# Altium integrated library Atmel Microcontroller AVR UC3.IntLib: 227 symbols (part 25 of 32)
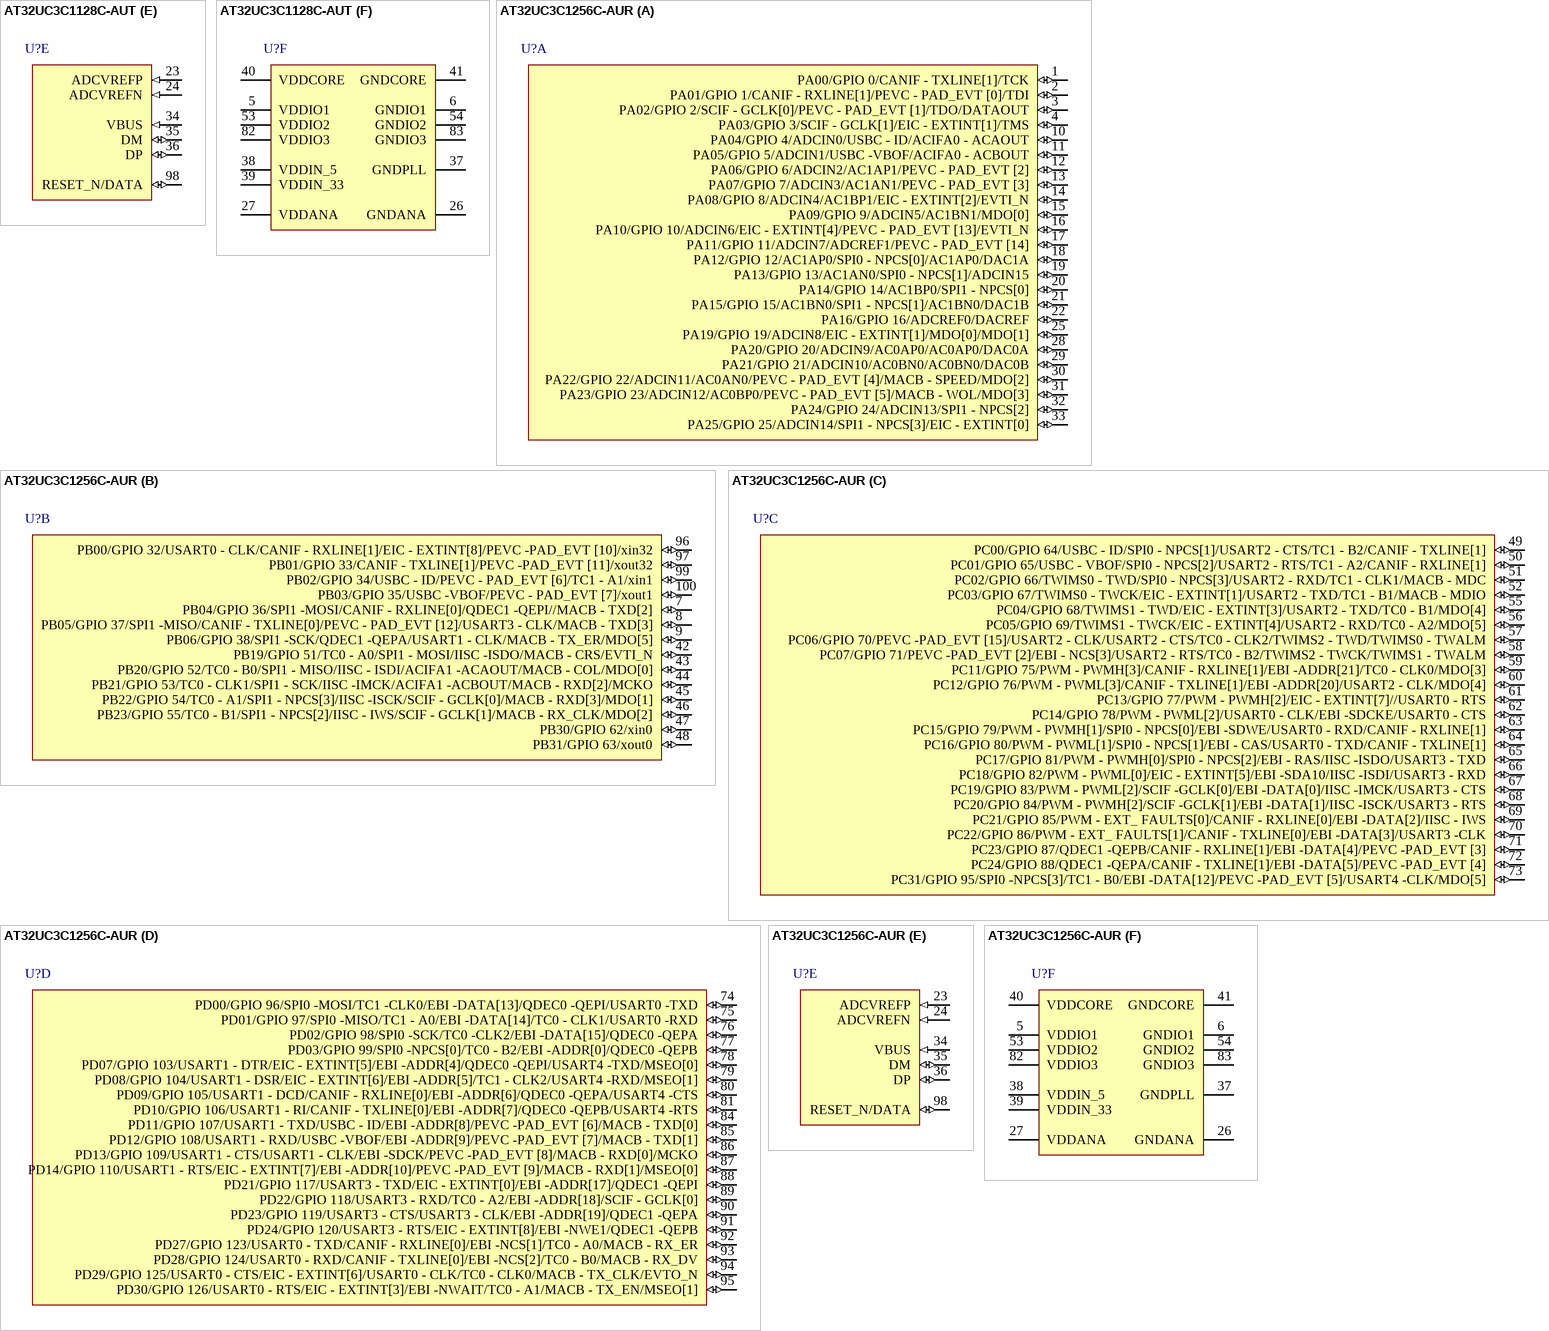
[diagram p156: symbols AT32UC3C1128C-AUT to AT32UC3C1256C-AUR]

## AT32UC3C1256C-AUR
designator U?
32-bit AVR UC3 C Series Microcontroller, 256KB Flash, 68KB SRAM, 81 GPIO pins, Industrial Grade, 100- Pin TQFP, Reel; DatasheetVersion: revC, Aug-2011; PackageVersion: 2011; PackageReference: TQFP100; PackageDescription: 100-Pin Thin Plastic Quad Flat Pack, 14 x 14 x 1 mm Body, 0.5 mm Pitch; Code_JEDEC: MS-026-AED; ComponentLink1Description: Manufacturer URL; ComponentLink1URL: http://www.atmel.com/; ComponentLink2Description: AT32UC3C Datasheet; ComponentLink2URL: http://www.atmel.com/dyn/resources/prod_documents/doc32117.pdf; ComponentLink3Description: AT32UC3C Summary; ComponentLink3URL: http://www.atmel.com/dyn/resources/prod_documents/32117s.pdf
footprint TQFP100_N (Thin QFP, 100-Leads, Body 14x14mm, Pitch 0.5mm, IPC Medium Density)
footprint TQFP100_L (Thin QFP, 100-Leads, Body 14x14mm, Pitch 0.5mm, IPC High Density)
footprint TQFP100_M (Thin QFP, 100-Leads, Body 14x14mm, Pitch 0.5mm, IPC Low Density)
part A pins: 1 PA00/GPIO 0/CANIF - TXLINE[1]/TCK (io), 2 PA01/GPIO 1/CANIF - RXLINE[1]/PEVC - PAD_EVT [0]/TDI (io), 3 PA02/GPIO 2/SCIF - GCLK[0]/PEVC - PAD_EVT [1]/TDO/DATAOUT (io), 4 PA03/GPIO 3/SCIF - GCLK[1]/EIC - EXTINT[1]/TMS (io), 10 PA04/GPIO 4/ADCIN0/USBC - ID/ACIFA0 - ACAOUT (io), 11 PA05/GPIO 5/ADCIN1/USBC -VBOF/ACIFA0 - ACBOUT (io), 12 PA06/GPIO 6/ADCIN2/AC1AP1/PEVC - PAD_EVT [2] (io), 13 PA07/GPIO 7/ADCIN3/AC1AN1/PEVC - PAD_EVT [3] (io), 14 PA08/GPIO 8/ADCIN4/AC1BP1/EIC - EXTINT[2]/EVTI_N (io), 15 PA09/GPIO 9/ADCIN5/AC1BN1/MDO[0] (io), 16 PA10/GPIO 10/ADCIN6/EIC - EXTINT[4]/PEVC - PAD_EVT [13]/EVTI_N (io), 17 PA11/GPIO 11/ADCIN7/ADCREF1/PEVC - PAD_EVT [14] (io), 18 PA12/GPIO 12/AC1AP0/SPI0 - NPCS[0]/AC1AP0/DAC1A (io), 19 PA13/GPIO 13/AC1AN0/SPI0 - NPCS[1]/ADCIN15 (io), 20 PA14/GPIO 14/AC1BP0/SPI1 - NPCS[0] (io), 21 PA15/GPIO 15/AC1BN0/SPI1 - NPCS[1]/AC1BN0/DAC1B (io), 22 PA16/GPIO 16/ADCREF0/DACREF (io), 25 PA19/GPIO 19/ADCIN8/EIC - EXTINT[1]/MDO[0]/MDO[1] (io), 28 PA20/GPIO 20/ADCIN9/AC0AP0/AC0AP0/DAC0A (io), 29 PA21/GPIO 21/ADCIN10/AC0BN0/AC0BN0/DAC0B (io), 30 PA22/GPIO 22/ADCIN11/AC0AN0/PEVC - PAD_EVT [4]/MACB - SPEED/MDO[2] (io), 31 PA23/GPIO 23/ADCIN12/AC0BP0/PEVC - PAD_EVT [5]/MACB - WOL/MDO[3] (io), 32 PA24/GPIO 24/ADCIN13/SPI1 - NPCS[2] (io), 33 PA25/GPIO 25/ADCIN14/SPI1 - NPCS[3]/EIC - EXTINT[0] (io)
part B pins: 7 PB04/GPIO 36/SPI1 -MOSI/CANIF - RXLINE[0]/QDEC1 -QEPI//MACB - TXD[2] (io), 8 PB05/GPIO 37/SPI1 -MISO/CANIF - TXLINE[0]/PEVC - PAD_EVT [12]/USART3 - CLK/MACB - TXD[3] (io), 9 PB06/GPIO 38/SPI1 -SCK/QDEC1 -QEPA/USART1 - CLK/MACB - TX_ER/MDO[5] (io), 42 PB19/GPIO 51/TC0 - A0/SPI1 - MOSI/IISC -ISDO/MACB - CRS/EVTI_N (io), 43 PB20/GPIO 52/TC0 - B0/SPI1 - MISO/IISC - ISDI/ACIFA1 -ACAOUT/MACB - COL/MDO[0] (io), 44 PB21/GPIO 53/TC0 - CLK1/SPI1 - SCK/IISC -IMCK/ACIFA1 -ACBOUT/MACB - RXD[2]/MCKO (io), 45 PB22/GPIO 54/TC0 - A1/SPI1 - NPCS[3]/IISC -ISCK/SCIF - GCLK[0]/MACB - RXD[3]/MDO[1] (io), 46 PB23/GPIO 55/TC0 - B1/SPI1 - NPCS[2]/IISC - IWS/SCIF - GCLK[1]/MACB - RX_CLK/MDO[2] (io), 47 PB30/GPIO 62/xin0 (io), 48 PB31/GPIO 63/xout0 (io), 96 PB00/GPIO 32/USART0 - CLK/CANIF - RXLINE[1]/EIC - EXTINT[8]/PEVC -PAD_EVT [10]/xin32 (io), 97 PB01/GPIO 33/CANIF - TXLINE[1]/PEVC -PAD_EVT [11]/xout32 (io), 99 PB02/GPIO 34/USBC - ID/PEVC - PAD_EVT [6]/TC1 - A1/xin1 (io), 100 PB03/GPIO 35/USBC -VBOF/PEVC - PAD_EVT [7]/xout1 (io)
part C pins: 49 PC00/GPIO 64/USBC - ID/SPI0 - NPCS[1]/USART2 - CTS/TC1 - B2/CANIF - TXLINE[1] (io), 50 PC01/GPIO 65/USBC - VBOF/SPI0 - NPCS[2]/USART2 - RTS/TC1 - A2/CANIF - RXLINE[1] (io), 51 PC02/GPIO 66/TWIMS0 - TWD/SPI0 - NPCS[3]/USART2 - RXD/TC1 - CLK1/MACB - MDC (io), 52 PC03/GPIO 67/TWIMS0 - TWCK/EIC - EXTINT[1]/USART2 - TXD/TC1 - B1/MACB - MDIO (io), 55 PC04/GPIO 68/TWIMS1 - TWD/EIC - EXTINT[3]/USART2 - TXD/TC0 - B1/MDO[4] (io), 56 PC05/GPIO 69/TWIMS1 - TWCK/EIC - EXTINT[4]/USART2 - RXD/TC0 - A2/MDO[5] (io), 57 PC06/GPIO 70/PEVC -PAD_EVT [15]/USART2 - CLK/USART2 - CTS/TC0 - CLK2/TWIMS2 - TWD/TWIMS0 - TWALM (io), 58 PC07/GPIO 71/PEVC -PAD_EVT [2]/EBI - NCS[3]/USART2 - RTS/TC0 - B2/TWIMS2 - TWCK/TWIMS1 - TWALM (io), 59 PC11/GPIO 75/PWM - PWMH[3]/CANIF - RXLINE[1]/EBI -ADDR[21]/TC0 - CLK0/MDO[3] (io), 60 PC12/GPIO 76/PWM - PWML[3]/CANIF - TXLINE[1]/EBI -ADDR[20]/USART2 - CLK/MDO[4] (io), 61 PC13/GPIO 77/PWM - PWMH[2]/EIC - EXTINT[7]//USART0 - RTS (io), 62 PC14/GPIO 78/PWM - PWML[2]/USART0 - CLK/EBI -SDCKE/USART0 - CTS (io), 63 PC15/GPIO 79/PWM - PWMH[1]/SPI0 - NPCS[0]/EBI -SDWE/USART0 - RXD/CANIF - RXLINE[1] (io), 64 PC16/GPIO 80/PWM - PWML[1]/SPI0 - NPCS[1]/EBI - CAS/USART0 - TXD/CANIF - TXLINE[1] (io), 65 PC17/GPIO 81/PWM - PWMH[0]/SPI0 - NPCS[2]/EBI - RAS/IISC -ISDO/USART3 - TXD (io), 66 PC18/GPIO 82/PWM - PWML[0]/EIC - EXTINT[5]/EBI -SDA10/IISC -ISDI/USART3 - RXD (io), 67 PC19/GPIO 83/PWM - PWML[2]/SCIF -GCLK[0]/EBI -DATA[0]/IISC -IMCK/USART3 - CTS (io), 68 PC20/GPIO 84/PWM - PWMH[2]/SCIF -GCLK[1]/EBI -DATA[1]/IISC -ISCK/USART3 - RTS (io), 69 PC21/GPIO 85/PWM - EXT_ FAULTS[0]/CANIF - RXLINE[0]/EBI -DATA[2]/IISC - IWS (io), 70 PC22/GPIO 86/PWM - EXT_ FAULTS[1]/CANIF - TXLINE[0]/EBI -DATA[3]/USART3 -CLK (io), 71 PC23/GPIO 87/QDEC1 -QEPB/CANIF - RXLINE[1]/EBI -DATA[4]/PEVC -PAD_EVT [3] (io), 72 PC24/GPIO 88/QDEC1 -QEPA/CANIF - TXLINE[1]/EBI -DATA[5]/PEVC -PAD_EVT [4] (io), 73 PC31/GPIO 95/SPI0 -NPCS[3]/TC1 - B0/EBI -DATA[12]/PEVC -PAD_EVT [5]/USART4 -CLK/MDO[5] (io)
part D pins: 74 PD00/GPIO 96/SPI0 -MOSI/TC1 -CLK0/EBI -DATA[13]/QDEC0 -QEPI/USART0 -TXD (io), 75 PD01/GPIO 97/SPI0 -MISO/TC1 - A0/EBI -DATA[14]/TC0 - CLK1/USART0 -RXD (io), 76 PD02/GPIO 98/SPI0 -SCK/TC0 -CLK2/EBI -DATA[15]/QDEC0 -QEPA (io), 77 PD03/GPIO 99/SPI0 -NPCS[0]/TC0 - B2/EBI -ADDR[0]/QDEC0 -QEPB (io), 78 PD07/GPIO 103/USART1 - DTR/EIC - EXTINT[5]/EBI -ADDR[4]/QDEC0 -QEPI/USART4 -TXD/MSEO[0] (io), 79 PD08/GPIO 104/USART1 - DSR/EIC - EXTINT[6]/EBI -ADDR[5]/TC1 - CLK2/USART4 -RXD/MSEO[1] (io), 80 PD09/GPIO 105/USART1 - DCD/CANIF - RXLINE[0]/EBI -ADDR[6]/QDEC0 -QEPA/USART4 -CTS (io), 81 PD10/GPIO 106/USART1 - RI/CANIF - TXLINE[0]/EBI -ADDR[7]/QDEC0 -QEPB/USART4 -RTS (io), 84 PD11/GPIO 107/USART1 - TXD/USBC - ID/EBI -ADDR[8]/PEVC -PAD_EVT [6]/MACB - TXD[0] (io), 85 PD12/GPIO 108/USART1 - RXD/USBC -VBOF/EBI -ADDR[9]/PEVC -PAD_EVT [7]/MACB - TXD[1] (io), 86 PD13/GPIO 109/USART1 - CTS/USART1 - CLK/EBI -SDCK/PEVC -PAD_EVT [8]/MACB - RXD[0]/MCKO (io), 87 PD14/GPIO 110/USART1 - RTS/EIC - EXTINT[7]/EBI -ADDR[10]/PEVC -PAD_EVT [9]/MACB - RXD[1]/MSEO[0] (io), 88 PD21/GPIO 117/USART3 - TXD/EIC - EXTINT[0]/EBI -ADDR[17]/QDEC1 -QEPI (io), 89 PD22/GPIO 118/USART3 - RXD/TC0 - A2/EBI -ADDR[18]/SCIF - GCLK[0] (io), 90 PD23/GPIO 119/USART3 - CTS/USART3 - CLK/EBI -ADDR[19]/QDEC1 -QEPA (io), 91 PD24/GPIO 120/USART3 - RTS/EIC - EXTINT[8]/EBI -NWE1/QDEC1 -QEPB (io), 92 PD27/GPIO 123/USART0 - TXD/CANIF - RXLINE[0]/EBI -NCS[1]/TC0 - A0/MACB - RX_ER (io), 93 PD28/GPIO 124/USART0 - RXD/CANIF - TXLINE[0]/EBI -NCS[2]/TC0 - B0/MACB - RX_DV (io), 94 PD29/GPIO 125/USART0 - CTS/EIC - EXTINT[6]/USART0 - CLK/TC0 - CLK0/MACB - TX_CLK/EVTO_N (io), 95 PD30/GPIO 126/USART0 - RTS/EIC - EXTINT[3]/EBI -NWAIT/TC0 - A1/MACB - TX_EN/MSEO[1] (io)
part E pins: 23 ADCVREFP (in), 24 ADCVREFN (in), 34 VBUS (in), 35 DM (io), 36 DP (io), 98 RESET_N/DATA (io)
part F pins: 5 VDDIO1 (power), 6 GNDIO1 (power), 26 GNDANA (power), 27 VDDANA (power), 37 GNDPLL (power), 38 VDDIN_5 (power), 39 VDDIN_33 (power), 40 VDDCORE (power), 41 GNDCORE (power), 53 VDDIO2 (power), 54 GNDIO2 (power), 82 VDDIO3 (power), 83 GNDIO3 (power)

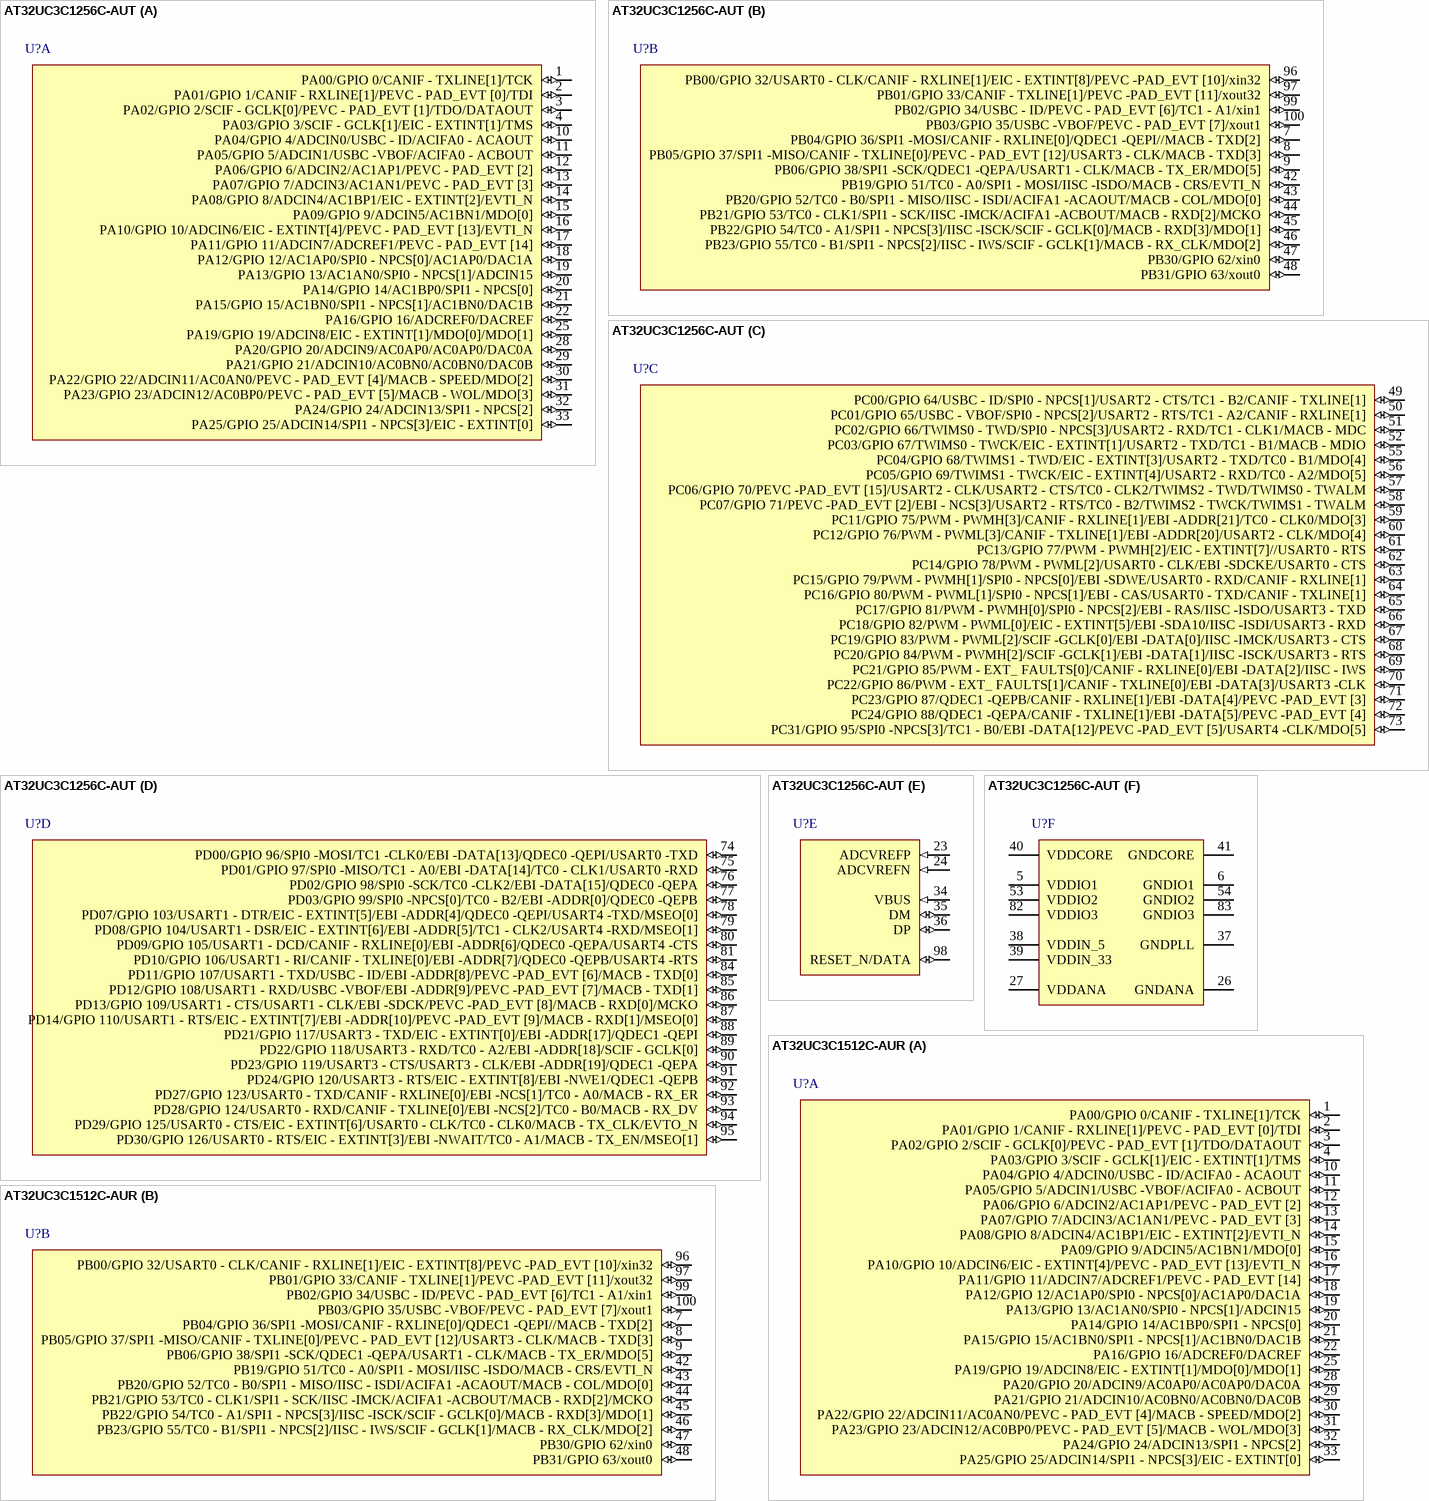
[diagram p85: symbols AT32UC3C1256C-AUT to AT32UC3C1512C-AUR]

## AT32UC3C1256C-AUT
designator U?
32-bit AVR UC3 C Series Microcontroller, 256KB Flash, 68KB SRAM, 81 GPIO pins, Industrial Grade, 100- Pin TQFP, Tray; DatasheetVersion: revC, Aug-2011; PackageVersion: 2011; PackageReference: TQFP100; PackageDescription: 100-Pin Thin Plastic Quad Flat Pack, 14 x 14 x 1 mm Body, 0.5 mm Pitch; Code_JEDEC: MS-026-AED; ComponentLink1Description: Manufacturer URL; ComponentLink1URL: http://www.atmel.com/; ComponentLink2Description: AT32UC3C Datasheet; ComponentLink2URL: http://www.atmel.com/dyn/resources/prod_documents/doc32117.pdf; ComponentLink3Description: AT32UC3C Summary; ComponentLink3URL: http://www.atmel.com/dyn/resources/prod_documents/32117s.pdf
footprint TQFP100_N (Thin QFP, 100-Leads, Body 14x14mm, Pitch 0.5mm, IPC Medium Density)
footprint TQFP100_L (Thin QFP, 100-Leads, Body 14x14mm, Pitch 0.5mm, IPC High Density)
footprint TQFP100_M (Thin QFP, 100-Leads, Body 14x14mm, Pitch 0.5mm, IPC Low Density)
part A pins: 1 PA00/GPIO 0/CANIF - TXLINE[1]/TCK (io), 2 PA01/GPIO 1/CANIF - RXLINE[1]/PEVC - PAD_EVT [0]/TDI (io), 3 PA02/GPIO 2/SCIF - GCLK[0]/PEVC - PAD_EVT [1]/TDO/DATAOUT (io), 4 PA03/GPIO 3/SCIF - GCLK[1]/EIC - EXTINT[1]/TMS (io), 10 PA04/GPIO 4/ADCIN0/USBC - ID/ACIFA0 - ACAOUT (io), 11 PA05/GPIO 5/ADCIN1/USBC -VBOF/ACIFA0 - ACBOUT (io), 12 PA06/GPIO 6/ADCIN2/AC1AP1/PEVC - PAD_EVT [2] (io), 13 PA07/GPIO 7/ADCIN3/AC1AN1/PEVC - PAD_EVT [3] (io), 14 PA08/GPIO 8/ADCIN4/AC1BP1/EIC - EXTINT[2]/EVTI_N (io), 15 PA09/GPIO 9/ADCIN5/AC1BN1/MDO[0] (io), 16 PA10/GPIO 10/ADCIN6/EIC - EXTINT[4]/PEVC - PAD_EVT [13]/EVTI_N (io), 17 PA11/GPIO 11/ADCIN7/ADCREF1/PEVC - PAD_EVT [14] (io), 18 PA12/GPIO 12/AC1AP0/SPI0 - NPCS[0]/AC1AP0/DAC1A (io), 19 PA13/GPIO 13/AC1AN0/SPI0 - NPCS[1]/ADCIN15 (io), 20 PA14/GPIO 14/AC1BP0/SPI1 - NPCS[0] (io), 21 PA15/GPIO 15/AC1BN0/SPI1 - NPCS[1]/AC1BN0/DAC1B (io), 22 PA16/GPIO 16/ADCREF0/DACREF (io), 25 PA19/GPIO 19/ADCIN8/EIC - EXTINT[1]/MDO[0]/MDO[1] (io), 28 PA20/GPIO 20/ADCIN9/AC0AP0/AC0AP0/DAC0A (io), 29 PA21/GPIO 21/ADCIN10/AC0BN0/AC0BN0/DAC0B (io), 30 PA22/GPIO 22/ADCIN11/AC0AN0/PEVC - PAD_EVT [4]/MACB - SPEED/MDO[2] (io), 31 PA23/GPIO 23/ADCIN12/AC0BP0/PEVC - PAD_EVT [5]/MACB - WOL/MDO[3] (io), 32 PA24/GPIO 24/ADCIN13/SPI1 - NPCS[2] (io), 33 PA25/GPIO 25/ADCIN14/SPI1 - NPCS[3]/EIC - EXTINT[0] (io)
part B pins: 7 PB04/GPIO 36/SPI1 -MOSI/CANIF - RXLINE[0]/QDEC1 -QEPI//MACB - TXD[2] (io), 8 PB05/GPIO 37/SPI1 -MISO/CANIF - TXLINE[0]/PEVC - PAD_EVT [12]/USART3 - CLK/MACB - TXD[3] (io), 9 PB06/GPIO 38/SPI1 -SCK/QDEC1 -QEPA/USART1 - CLK/MACB - TX_ER/MDO[5] (io), 42 PB19/GPIO 51/TC0 - A0/SPI1 - MOSI/IISC -ISDO/MACB - CRS/EVTI_N (io), 43 PB20/GPIO 52/TC0 - B0/SPI1 - MISO/IISC - ISDI/ACIFA1 -ACAOUT/MACB - COL/MDO[0] (io), 44 PB21/GPIO 53/TC0 - CLK1/SPI1 - SCK/IISC -IMCK/ACIFA1 -ACBOUT/MACB - RXD[2]/MCKO (io), 45 PB22/GPIO 54/TC0 - A1/SPI1 - NPCS[3]/IISC -ISCK/SCIF - GCLK[0]/MACB - RXD[3]/MDO[1] (io), 46 PB23/GPIO 55/TC0 - B1/SPI1 - NPCS[2]/IISC - IWS/SCIF - GCLK[1]/MACB - RX_CLK/MDO[2] (io), 47 PB30/GPIO 62/xin0 (io), 48 PB31/GPIO 63/xout0 (io), 96 PB00/GPIO 32/USART0 - CLK/CANIF - RXLINE[1]/EIC - EXTINT[8]/PEVC -PAD_EVT [10]/xin32 (io), 97 PB01/GPIO 33/CANIF - TXLINE[1]/PEVC -PAD_EVT [11]/xout32 (io), 99 PB02/GPIO 34/USBC - ID/PEVC - PAD_EVT [6]/TC1 - A1/xin1 (io), 100 PB03/GPIO 35/USBC -VBOF/PEVC - PAD_EVT [7]/xout1 (io)
part C pins: 49 PC00/GPIO 64/USBC - ID/SPI0 - NPCS[1]/USART2 - CTS/TC1 - B2/CANIF - TXLINE[1] (io), 50 PC01/GPIO 65/USBC - VBOF/SPI0 - NPCS[2]/USART2 - RTS/TC1 - A2/CANIF - RXLINE[1] (io), 51 PC02/GPIO 66/TWIMS0 - TWD/SPI0 - NPCS[3]/USART2 - RXD/TC1 - CLK1/MACB - MDC (io), 52 PC03/GPIO 67/TWIMS0 - TWCK/EIC - EXTINT[1]/USART2 - TXD/TC1 - B1/MACB - MDIO (io), 55 PC04/GPIO 68/TWIMS1 - TWD/EIC - EXTINT[3]/USART2 - TXD/TC0 - B1/MDO[4] (io), 56 PC05/GPIO 69/TWIMS1 - TWCK/EIC - EXTINT[4]/USART2 - RXD/TC0 - A2/MDO[5] (io), 57 PC06/GPIO 70/PEVC -PAD_EVT [15]/USART2 - CLK/USART2 - CTS/TC0 - CLK2/TWIMS2 - TWD/TWIMS0 - TWALM (io), 58 PC07/GPIO 71/PEVC -PAD_EVT [2]/EBI - NCS[3]/USART2 - RTS/TC0 - B2/TWIMS2 - TWCK/TWIMS1 - TWALM (io), 59 PC11/GPIO 75/PWM - PWMH[3]/CANIF - RXLINE[1]/EBI -ADDR[21]/TC0 - CLK0/MDO[3] (io), 60 PC12/GPIO 76/PWM - PWML[3]/CANIF - TXLINE[1]/EBI -ADDR[20]/USART2 - CLK/MDO[4] (io), 61 PC13/GPIO 77/PWM - PWMH[2]/EIC - EXTINT[7]//USART0 - RTS (io), 62 PC14/GPIO 78/PWM - PWML[2]/USART0 - CLK/EBI -SDCKE/USART0 - CTS (io), 63 PC15/GPIO 79/PWM - PWMH[1]/SPI0 - NPCS[0]/EBI -SDWE/USART0 - RXD/CANIF - RXLINE[1] (io), 64 PC16/GPIO 80/PWM - PWML[1]/SPI0 - NPCS[1]/EBI - CAS/USART0 - TXD/CANIF - TXLINE[1] (io), 65 PC17/GPIO 81/PWM - PWMH[0]/SPI0 - NPCS[2]/EBI - RAS/IISC -ISDO/USART3 - TXD (io), 66 PC18/GPIO 82/PWM - PWML[0]/EIC - EXTINT[5]/EBI -SDA10/IISC -ISDI/USART3 - RXD (io), 67 PC19/GPIO 83/PWM - PWML[2]/SCIF -GCLK[0]/EBI -DATA[0]/IISC -IMCK/USART3 - CTS (io), 68 PC20/GPIO 84/PWM - PWMH[2]/SCIF -GCLK[1]/EBI -DATA[1]/IISC -ISCK/USART3 - RTS (io), 69 PC21/GPIO 85/PWM - EXT_ FAULTS[0]/CANIF - RXLINE[0]/EBI -DATA[2]/IISC - IWS (io), 70 PC22/GPIO 86/PWM - EXT_ FAULTS[1]/CANIF - TXLINE[0]/EBI -DATA[3]/USART3 -CLK (io), 71 PC23/GPIO 87/QDEC1 -QEPB/CANIF - RXLINE[1]/EBI -DATA[4]/PEVC -PAD_EVT [3] (io), 72 PC24/GPIO 88/QDEC1 -QEPA/CANIF - TXLINE[1]/EBI -DATA[5]/PEVC -PAD_EVT [4] (io), 73 PC31/GPIO 95/SPI0 -NPCS[3]/TC1 - B0/EBI -DATA[12]/PEVC -PAD_EVT [5]/USART4 -CLK/MDO[5] (io)
part D pins: 74 PD00/GPIO 96/SPI0 -MOSI/TC1 -CLK0/EBI -DATA[13]/QDEC0 -QEPI/USART0 -TXD (io), 75 PD01/GPIO 97/SPI0 -MISO/TC1 - A0/EBI -DATA[14]/TC0 - CLK1/USART0 -RXD (io), 76 PD02/GPIO 98/SPI0 -SCK/TC0 -CLK2/EBI -DATA[15]/QDEC0 -QEPA (io), 77 PD03/GPIO 99/SPI0 -NPCS[0]/TC0 - B2/EBI -ADDR[0]/QDEC0 -QEPB (io), 78 PD07/GPIO 103/USART1 - DTR/EIC - EXTINT[5]/EBI -ADDR[4]/QDEC0 -QEPI/USART4 -TXD/MSEO[0] (io), 79 PD08/GPIO 104/USART1 - DSR/EIC - EXTINT[6]/EBI -ADDR[5]/TC1 - CLK2/USART4 -RXD/MSEO[1] (io), 80 PD09/GPIO 105/USART1 - DCD/CANIF - RXLINE[0]/EBI -ADDR[6]/QDEC0 -QEPA/USART4 -CTS (io), 81 PD10/GPIO 106/USART1 - RI/CANIF - TXLINE[0]/EBI -ADDR[7]/QDEC0 -QEPB/USART4 -RTS (io), 84 PD11/GPIO 107/USART1 - TXD/USBC - ID/EBI -ADDR[8]/PEVC -PAD_EVT [6]/MACB - TXD[0] (io), 85 PD12/GPIO 108/USART1 - RXD/USBC -VBOF/EBI -ADDR[9]/PEVC -PAD_EVT [7]/MACB - TXD[1] (io), 86 PD13/GPIO 109/USART1 - CTS/USART1 - CLK/EBI -SDCK/PEVC -PAD_EVT [8]/MACB - RXD[0]/MCKO (io), 87 PD14/GPIO 110/USART1 - RTS/EIC - EXTINT[7]/EBI -ADDR[10]/PEVC -PAD_EVT [9]/MACB - RXD[1]/MSEO[0] (io), 88 PD21/GPIO 117/USART3 - TXD/EIC - EXTINT[0]/EBI -ADDR[17]/QDEC1 -QEPI (io), 89 PD22/GPIO 118/USART3 - RXD/TC0 - A2/EBI -ADDR[18]/SCIF - GCLK[0] (io), 90 PD23/GPIO 119/USART3 - CTS/USART3 - CLK/EBI -ADDR[19]/QDEC1 -QEPA (io), 91 PD24/GPIO 120/USART3 - RTS/EIC - EXTINT[8]/EBI -NWE1/QDEC1 -QEPB (io), 92 PD27/GPIO 123/USART0 - TXD/CANIF - RXLINE[0]/EBI -NCS[1]/TC0 - A0/MACB - RX_ER (io), 93 PD28/GPIO 124/USART0 - RXD/CANIF - TXLINE[0]/EBI -NCS[2]/TC0 - B0/MACB - RX_DV (io), 94 PD29/GPIO 125/USART0 - CTS/EIC - EXTINT[6]/USART0 - CLK/TC0 - CLK0/MACB - TX_CLK/EVTO_N (io), 95 PD30/GPIO 126/USART0 - RTS/EIC - EXTINT[3]/EBI -NWAIT/TC0 - A1/MACB - TX_EN/MSEO[1] (io)
part E pins: 23 ADCVREFP (in), 24 ADCVREFN (in), 34 VBUS (in), 35 DM (io), 36 DP (io), 98 RESET_N/DATA (io)
part F pins: 5 VDDIO1 (power), 6 GNDIO1 (power), 26 GNDANA (power), 27 VDDANA (power), 37 GNDPLL (power), 38 VDDIN_5 (power), 39 VDDIN_33 (power), 40 VDDCORE (power), 41 GNDCORE (power), 53 VDDIO2 (power), 54 GNDIO2 (power), 82 VDDIO3 (power), 83 GNDIO3 (power)

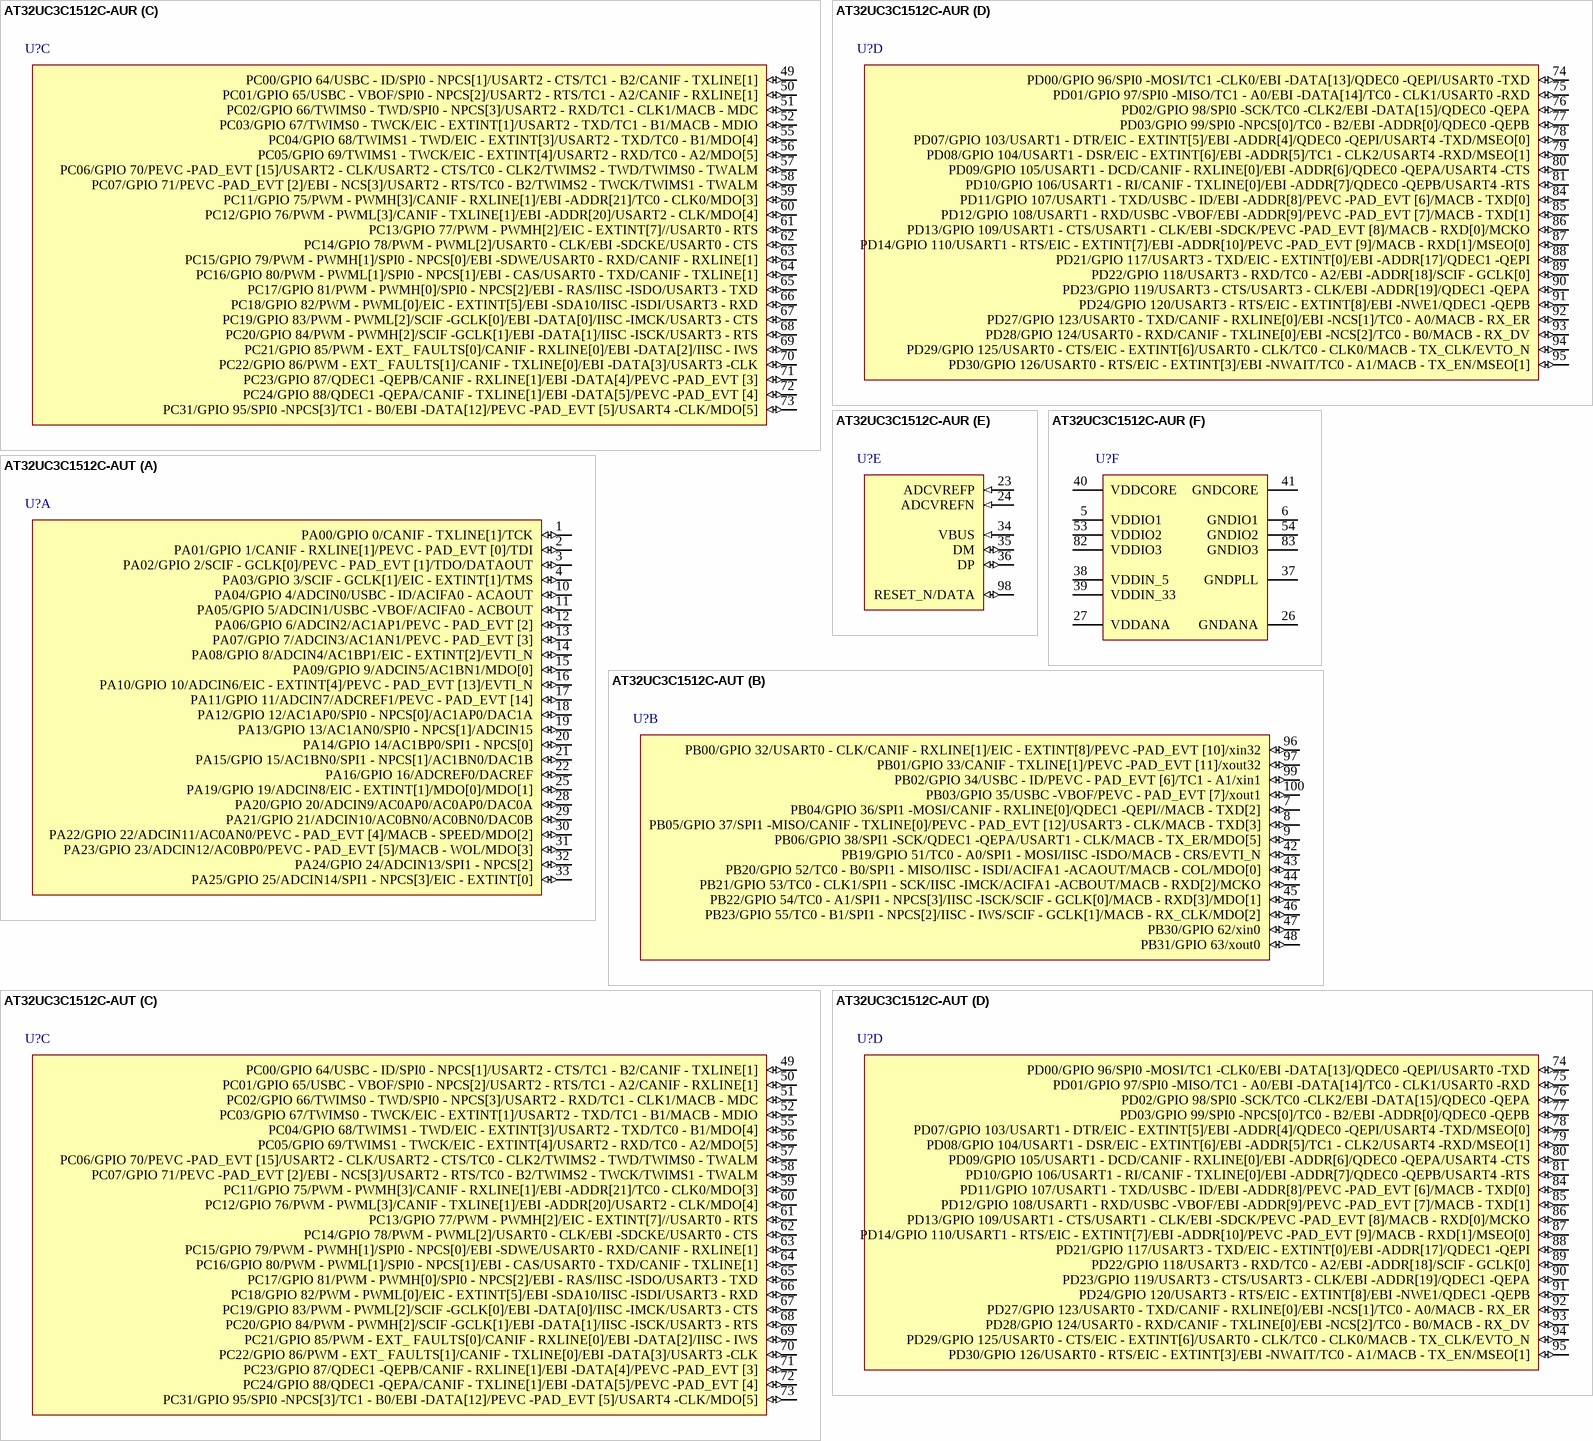
[diagram p86: symbols AT32UC3C1512C-AUR to AT32UC3C1512C-AUT]

## AT32UC3C1512C-AUR
designator U?
32-bit AVR UC3 C Series Microcontroller, 512KB Flash, 68KB SRAM, 81 GPIO pins, Industrial Grade, 100- Pin TQFP, Reel; DatasheetVersion: revC, Aug-2011; PackageVersion: 2011; PackageReference: TQFP100; PackageDescription: 100-Pin Thin Plastic Quad Flat Pack, 14 x 14 x 1 mm Body, 0.5 mm Pitch; Code_JEDEC: MS-026-AED; ComponentLink1Description: Manufacturer URL; ComponentLink1URL: http://www.atmel.com/; ComponentLink2Description: AT32UC3C Datasheet; ComponentLink2URL: http://www.atmel.com/dyn/resources/prod_documents/doc32117.pdf; ComponentLink3Description: AT32UC3C Summary; ComponentLink3URL: http://www.atmel.com/dyn/resources/prod_documents/32117s.pdf
footprint TQFP100_N (Thin QFP, 100-Leads, Body 14x14mm, Pitch 0.5mm, IPC Medium Density)
footprint TQFP100_L (Thin QFP, 100-Leads, Body 14x14mm, Pitch 0.5mm, IPC High Density)
footprint TQFP100_M (Thin QFP, 100-Leads, Body 14x14mm, Pitch 0.5mm, IPC Low Density)
part A pins: 1 PA00/GPIO 0/CANIF - TXLINE[1]/TCK (io), 2 PA01/GPIO 1/CANIF - RXLINE[1]/PEVC - PAD_EVT [0]/TDI (io), 3 PA02/GPIO 2/SCIF - GCLK[0]/PEVC - PAD_EVT [1]/TDO/DATAOUT (io), 4 PA03/GPIO 3/SCIF - GCLK[1]/EIC - EXTINT[1]/TMS (io), 10 PA04/GPIO 4/ADCIN0/USBC - ID/ACIFA0 - ACAOUT (io), 11 PA05/GPIO 5/ADCIN1/USBC -VBOF/ACIFA0 - ACBOUT (io), 12 PA06/GPIO 6/ADCIN2/AC1AP1/PEVC - PAD_EVT [2] (io), 13 PA07/GPIO 7/ADCIN3/AC1AN1/PEVC - PAD_EVT [3] (io), 14 PA08/GPIO 8/ADCIN4/AC1BP1/EIC - EXTINT[2]/EVTI_N (io), 15 PA09/GPIO 9/ADCIN5/AC1BN1/MDO[0] (io), 16 PA10/GPIO 10/ADCIN6/EIC - EXTINT[4]/PEVC - PAD_EVT [13]/EVTI_N (io), 17 PA11/GPIO 11/ADCIN7/ADCREF1/PEVC - PAD_EVT [14] (io), 18 PA12/GPIO 12/AC1AP0/SPI0 - NPCS[0]/AC1AP0/DAC1A (io), 19 PA13/GPIO 13/AC1AN0/SPI0 - NPCS[1]/ADCIN15 (io), 20 PA14/GPIO 14/AC1BP0/SPI1 - NPCS[0] (io), 21 PA15/GPIO 15/AC1BN0/SPI1 - NPCS[1]/AC1BN0/DAC1B (io), 22 PA16/GPIO 16/ADCREF0/DACREF (io), 25 PA19/GPIO 19/ADCIN8/EIC - EXTINT[1]/MDO[0]/MDO[1] (io), 28 PA20/GPIO 20/ADCIN9/AC0AP0/AC0AP0/DAC0A (io), 29 PA21/GPIO 21/ADCIN10/AC0BN0/AC0BN0/DAC0B (io), 30 PA22/GPIO 22/ADCIN11/AC0AN0/PEVC - PAD_EVT [4]/MACB - SPEED/MDO[2] (io), 31 PA23/GPIO 23/ADCIN12/AC0BP0/PEVC - PAD_EVT [5]/MACB - WOL/MDO[3] (io), 32 PA24/GPIO 24/ADCIN13/SPI1 - NPCS[2] (io), 33 PA25/GPIO 25/ADCIN14/SPI1 - NPCS[3]/EIC - EXTINT[0] (io)
part B pins: 7 PB04/GPIO 36/SPI1 -MOSI/CANIF - RXLINE[0]/QDEC1 -QEPI//MACB - TXD[2] (io), 8 PB05/GPIO 37/SPI1 -MISO/CANIF - TXLINE[0]/PEVC - PAD_EVT [12]/USART3 - CLK/MACB - TXD[3] (io), 9 PB06/GPIO 38/SPI1 -SCK/QDEC1 -QEPA/USART1 - CLK/MACB - TX_ER/MDO[5] (io), 42 PB19/GPIO 51/TC0 - A0/SPI1 - MOSI/IISC -ISDO/MACB - CRS/EVTI_N (io), 43 PB20/GPIO 52/TC0 - B0/SPI1 - MISO/IISC - ISDI/ACIFA1 -ACAOUT/MACB - COL/MDO[0] (io), 44 PB21/GPIO 53/TC0 - CLK1/SPI1 - SCK/IISC -IMCK/ACIFA1 -ACBOUT/MACB - RXD[2]/MCKO (io), 45 PB22/GPIO 54/TC0 - A1/SPI1 - NPCS[3]/IISC -ISCK/SCIF - GCLK[0]/MACB - RXD[3]/MDO[1] (io), 46 PB23/GPIO 55/TC0 - B1/SPI1 - NPCS[2]/IISC - IWS/SCIF - GCLK[1]/MACB - RX_CLK/MDO[2] (io), 47 PB30/GPIO 62/xin0 (io), 48 PB31/GPIO 63/xout0 (io), 96 PB00/GPIO 32/USART0 - CLK/CANIF - RXLINE[1]/EIC - EXTINT[8]/PEVC -PAD_EVT [10]/xin32 (io), 97 PB01/GPIO 33/CANIF - TXLINE[1]/PEVC -PAD_EVT [11]/xout32 (io), 99 PB02/GPIO 34/USBC - ID/PEVC - PAD_EVT [6]/TC1 - A1/xin1 (io), 100 PB03/GPIO 35/USBC -VBOF/PEVC - PAD_EVT [7]/xout1 (io)
part C pins: 49 PC00/GPIO 64/USBC - ID/SPI0 - NPCS[1]/USART2 - CTS/TC1 - B2/CANIF - TXLINE[1] (io), 50 PC01/GPIO 65/USBC - VBOF/SPI0 - NPCS[2]/USART2 - RTS/TC1 - A2/CANIF - RXLINE[1] (io), 51 PC02/GPIO 66/TWIMS0 - TWD/SPI0 - NPCS[3]/USART2 - RXD/TC1 - CLK1/MACB - MDC (io), 52 PC03/GPIO 67/TWIMS0 - TWCK/EIC - EXTINT[1]/USART2 - TXD/TC1 - B1/MACB - MDIO (io), 55 PC04/GPIO 68/TWIMS1 - TWD/EIC - EXTINT[3]/USART2 - TXD/TC0 - B1/MDO[4] (io), 56 PC05/GPIO 69/TWIMS1 - TWCK/EIC - EXTINT[4]/USART2 - RXD/TC0 - A2/MDO[5] (io), 57 PC06/GPIO 70/PEVC -PAD_EVT [15]/USART2 - CLK/USART2 - CTS/TC0 - CLK2/TWIMS2 - TWD/TWIMS0 - TWALM (io), 58 PC07/GPIO 71/PEVC -PAD_EVT [2]/EBI - NCS[3]/USART2 - RTS/TC0 - B2/TWIMS2 - TWCK/TWIMS1 - TWALM (io), 59 PC11/GPIO 75/PWM - PWMH[3]/CANIF - RXLINE[1]/EBI -ADDR[21]/TC0 - CLK0/MDO[3] (io), 60 PC12/GPIO 76/PWM - PWML[3]/CANIF - TXLINE[1]/EBI -ADDR[20]/USART2 - CLK/MDO[4] (io), 61 PC13/GPIO 77/PWM - PWMH[2]/EIC - EXTINT[7]//USART0 - RTS (io), 62 PC14/GPIO 78/PWM - PWML[2]/USART0 - CLK/EBI -SDCKE/USART0 - CTS (io), 63 PC15/GPIO 79/PWM - PWMH[1]/SPI0 - NPCS[0]/EBI -SDWE/USART0 - RXD/CANIF - RXLINE[1] (io), 64 PC16/GPIO 80/PWM - PWML[1]/SPI0 - NPCS[1]/EBI - CAS/USART0 - TXD/CANIF - TXLINE[1] (io), 65 PC17/GPIO 81/PWM - PWMH[0]/SPI0 - NPCS[2]/EBI - RAS/IISC -ISDO/USART3 - TXD (io), 66 PC18/GPIO 82/PWM - PWML[0]/EIC - EXTINT[5]/EBI -SDA10/IISC -ISDI/USART3 - RXD (io), 67 PC19/GPIO 83/PWM - PWML[2]/SCIF -GCLK[0]/EBI -DATA[0]/IISC -IMCK/USART3 - CTS (io), 68 PC20/GPIO 84/PWM - PWMH[2]/SCIF -GCLK[1]/EBI -DATA[1]/IISC -ISCK/USART3 - RTS (io), 69 PC21/GPIO 85/PWM - EXT_ FAULTS[0]/CANIF - RXLINE[0]/EBI -DATA[2]/IISC - IWS (io), 70 PC22/GPIO 86/PWM - EXT_ FAULTS[1]/CANIF - TXLINE[0]/EBI -DATA[3]/USART3 -CLK (io), 71 PC23/GPIO 87/QDEC1 -QEPB/CANIF - RXLINE[1]/EBI -DATA[4]/PEVC -PAD_EVT [3] (io), 72 PC24/GPIO 88/QDEC1 -QEPA/CANIF - TXLINE[1]/EBI -DATA[5]/PEVC -PAD_EVT [4] (io), 73 PC31/GPIO 95/SPI0 -NPCS[3]/TC1 - B0/EBI -DATA[12]/PEVC -PAD_EVT [5]/USART4 -CLK/MDO[5] (io)
part D pins: 74 PD00/GPIO 96/SPI0 -MOSI/TC1 -CLK0/EBI -DATA[13]/QDEC0 -QEPI/USART0 -TXD (io), 75 PD01/GPIO 97/SPI0 -MISO/TC1 - A0/EBI -DATA[14]/TC0 - CLK1/USART0 -RXD (io), 76 PD02/GPIO 98/SPI0 -SCK/TC0 -CLK2/EBI -DATA[15]/QDEC0 -QEPA (io), 77 PD03/GPIO 99/SPI0 -NPCS[0]/TC0 - B2/EBI -ADDR[0]/QDEC0 -QEPB (io), 78 PD07/GPIO 103/USART1 - DTR/EIC - EXTINT[5]/EBI -ADDR[4]/QDEC0 -QEPI/USART4 -TXD/MSEO[0] (io), 79 PD08/GPIO 104/USART1 - DSR/EIC - EXTINT[6]/EBI -ADDR[5]/TC1 - CLK2/USART4 -RXD/MSEO[1] (io), 80 PD09/GPIO 105/USART1 - DCD/CANIF - RXLINE[0]/EBI -ADDR[6]/QDEC0 -QEPA/USART4 -CTS (io), 81 PD10/GPIO 106/USART1 - RI/CANIF - TXLINE[0]/EBI -ADDR[7]/QDEC0 -QEPB/USART4 -RTS (io), 84 PD11/GPIO 107/USART1 - TXD/USBC - ID/EBI -ADDR[8]/PEVC -PAD_EVT [6]/MACB - TXD[0] (io), 85 PD12/GPIO 108/USART1 - RXD/USBC -VBOF/EBI -ADDR[9]/PEVC -PAD_EVT [7]/MACB - TXD[1] (io), 86 PD13/GPIO 109/USART1 - CTS/USART1 - CLK/EBI -SDCK/PEVC -PAD_EVT [8]/MACB - RXD[0]/MCKO (io), 87 PD14/GPIO 110/USART1 - RTS/EIC - EXTINT[7]/EBI -ADDR[10]/PEVC -PAD_EVT [9]/MACB - RXD[1]/MSEO[0] (io), 88 PD21/GPIO 117/USART3 - TXD/EIC - EXTINT[0]/EBI -ADDR[17]/QDEC1 -QEPI (io), 89 PD22/GPIO 118/USART3 - RXD/TC0 - A2/EBI -ADDR[18]/SCIF - GCLK[0] (io), 90 PD23/GPIO 119/USART3 - CTS/USART3 - CLK/EBI -ADDR[19]/QDEC1 -QEPA (io), 91 PD24/GPIO 120/USART3 - RTS/EIC - EXTINT[8]/EBI -NWE1/QDEC1 -QEPB (io), 92 PD27/GPIO 123/USART0 - TXD/CANIF - RXLINE[0]/EBI -NCS[1]/TC0 - A0/MACB - RX_ER (io), 93 PD28/GPIO 124/USART0 - RXD/CANIF - TXLINE[0]/EBI -NCS[2]/TC0 - B0/MACB - RX_DV (io), 94 PD29/GPIO 125/USART0 - CTS/EIC - EXTINT[6]/USART0 - CLK/TC0 - CLK0/MACB - TX_CLK/EVTO_N (io), 95 PD30/GPIO 126/USART0 - RTS/EIC - EXTINT[3]/EBI -NWAIT/TC0 - A1/MACB - TX_EN/MSEO[1] (io)
part E pins: 23 ADCVREFP (in), 24 ADCVREFN (in), 34 VBUS (in), 35 DM (io), 36 DP (io), 98 RESET_N/DATA (io)
part F pins: 5 VDDIO1 (power), 6 GNDIO1 (power), 26 GNDANA (power), 27 VDDANA (power), 37 GNDPLL (power), 38 VDDIN_5 (power), 39 VDDIN_33 (power), 40 VDDCORE (power), 41 GNDCORE (power), 53 VDDIO2 (power), 54 GNDIO2 (power), 82 VDDIO3 (power), 83 GNDIO3 (power)

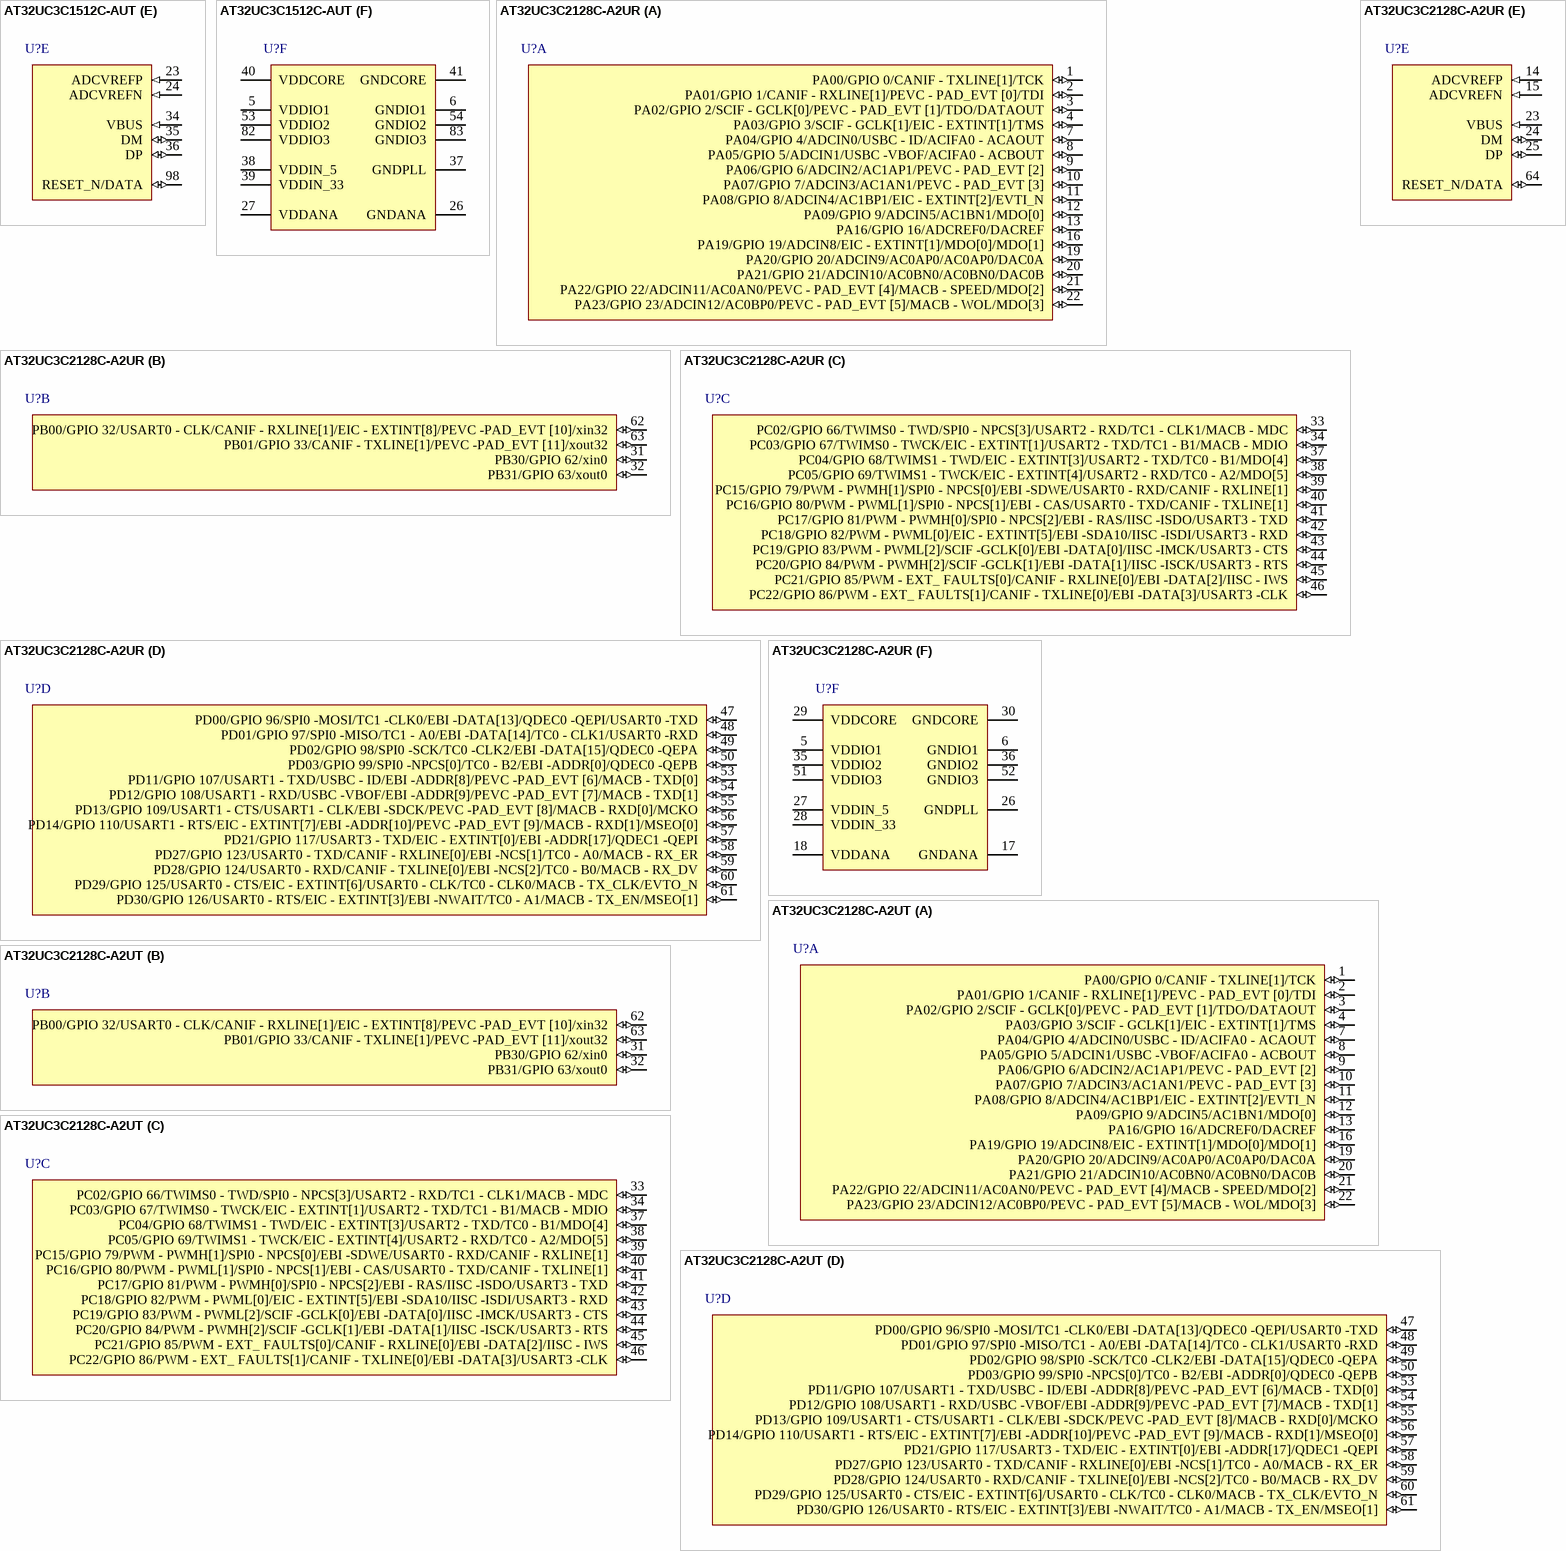
[diagram p87: symbols AT32UC3C1512C-AUT to AT32UC3C2128C-A2UT]

## AT32UC3C1512C-AUT
designator U?
32-bit AVR UC3 C Series Microcontroller, 512KB Flash, 68KB SRAM, 81 GPIO pins, Industrial Grade, 100- Pin TQFP, Tray; DatasheetVersion: revC, Aug-2011; PackageVersion: 2011; PackageReference: TQFP100; PackageDescription: 100-Pin Thin Plastic Quad Flat Pack, 14 x 14 x 1 mm Body, 0.5 mm Pitch; Code_JEDEC: MS-026-AED; ComponentLink1Description: Manufacturer URL; ComponentLink1URL: http://www.atmel.com/; ComponentLink2Description: AT32UC3C Datasheet; ComponentLink2URL: http://www.atmel.com/dyn/resources/prod_documents/doc32117.pdf; ComponentLink3Description: AT32UC3C Summary; ComponentLink3URL: http://www.atmel.com/dyn/resources/prod_documents/32117s.pdf
footprint TQFP100_N (Thin QFP, 100-Leads, Body 14x14mm, Pitch 0.5mm, IPC Medium Density)
footprint TQFP100_L (Thin QFP, 100-Leads, Body 14x14mm, Pitch 0.5mm, IPC High Density)
footprint TQFP100_M (Thin QFP, 100-Leads, Body 14x14mm, Pitch 0.5mm, IPC Low Density)
part A pins: 1 PA00/GPIO 0/CANIF - TXLINE[1]/TCK (io), 2 PA01/GPIO 1/CANIF - RXLINE[1]/PEVC - PAD_EVT [0]/TDI (io), 3 PA02/GPIO 2/SCIF - GCLK[0]/PEVC - PAD_EVT [1]/TDO/DATAOUT (io), 4 PA03/GPIO 3/SCIF - GCLK[1]/EIC - EXTINT[1]/TMS (io), 10 PA04/GPIO 4/ADCIN0/USBC - ID/ACIFA0 - ACAOUT (io), 11 PA05/GPIO 5/ADCIN1/USBC -VBOF/ACIFA0 - ACBOUT (io), 12 PA06/GPIO 6/ADCIN2/AC1AP1/PEVC - PAD_EVT [2] (io), 13 PA07/GPIO 7/ADCIN3/AC1AN1/PEVC - PAD_EVT [3] (io), 14 PA08/GPIO 8/ADCIN4/AC1BP1/EIC - EXTINT[2]/EVTI_N (io), 15 PA09/GPIO 9/ADCIN5/AC1BN1/MDO[0] (io), 16 PA10/GPIO 10/ADCIN6/EIC - EXTINT[4]/PEVC - PAD_EVT [13]/EVTI_N (io), 17 PA11/GPIO 11/ADCIN7/ADCREF1/PEVC - PAD_EVT [14] (io), 18 PA12/GPIO 12/AC1AP0/SPI0 - NPCS[0]/AC1AP0/DAC1A (io), 19 PA13/GPIO 13/AC1AN0/SPI0 - NPCS[1]/ADCIN15 (io), 20 PA14/GPIO 14/AC1BP0/SPI1 - NPCS[0] (io), 21 PA15/GPIO 15/AC1BN0/SPI1 - NPCS[1]/AC1BN0/DAC1B (io), 22 PA16/GPIO 16/ADCREF0/DACREF (io), 25 PA19/GPIO 19/ADCIN8/EIC - EXTINT[1]/MDO[0]/MDO[1] (io), 28 PA20/GPIO 20/ADCIN9/AC0AP0/AC0AP0/DAC0A (io), 29 PA21/GPIO 21/ADCIN10/AC0BN0/AC0BN0/DAC0B (io), 30 PA22/GPIO 22/ADCIN11/AC0AN0/PEVC - PAD_EVT [4]/MACB - SPEED/MDO[2] (io), 31 PA23/GPIO 23/ADCIN12/AC0BP0/PEVC - PAD_EVT [5]/MACB - WOL/MDO[3] (io), 32 PA24/GPIO 24/ADCIN13/SPI1 - NPCS[2] (io), 33 PA25/GPIO 25/ADCIN14/SPI1 - NPCS[3]/EIC - EXTINT[0] (io)
part B pins: 7 PB04/GPIO 36/SPI1 -MOSI/CANIF - RXLINE[0]/QDEC1 -QEPI//MACB - TXD[2] (io), 8 PB05/GPIO 37/SPI1 -MISO/CANIF - TXLINE[0]/PEVC - PAD_EVT [12]/USART3 - CLK/MACB - TXD[3] (io), 9 PB06/GPIO 38/SPI1 -SCK/QDEC1 -QEPA/USART1 - CLK/MACB - TX_ER/MDO[5] (io), 42 PB19/GPIO 51/TC0 - A0/SPI1 - MOSI/IISC -ISDO/MACB - CRS/EVTI_N (io), 43 PB20/GPIO 52/TC0 - B0/SPI1 - MISO/IISC - ISDI/ACIFA1 -ACAOUT/MACB - COL/MDO[0] (io), 44 PB21/GPIO 53/TC0 - CLK1/SPI1 - SCK/IISC -IMCK/ACIFA1 -ACBOUT/MACB - RXD[2]/MCKO (io), 45 PB22/GPIO 54/TC0 - A1/SPI1 - NPCS[3]/IISC -ISCK/SCIF - GCLK[0]/MACB - RXD[3]/MDO[1] (io), 46 PB23/GPIO 55/TC0 - B1/SPI1 - NPCS[2]/IISC - IWS/SCIF - GCLK[1]/MACB - RX_CLK/MDO[2] (io), 47 PB30/GPIO 62/xin0 (io), 48 PB31/GPIO 63/xout0 (io), 96 PB00/GPIO 32/USART0 - CLK/CANIF - RXLINE[1]/EIC - EXTINT[8]/PEVC -PAD_EVT [10]/xin32 (io), 97 PB01/GPIO 33/CANIF - TXLINE[1]/PEVC -PAD_EVT [11]/xout32 (io), 99 PB02/GPIO 34/USBC - ID/PEVC - PAD_EVT [6]/TC1 - A1/xin1 (io), 100 PB03/GPIO 35/USBC -VBOF/PEVC - PAD_EVT [7]/xout1 (io)
part C pins: 49 PC00/GPIO 64/USBC - ID/SPI0 - NPCS[1]/USART2 - CTS/TC1 - B2/CANIF - TXLINE[1] (io), 50 PC01/GPIO 65/USBC - VBOF/SPI0 - NPCS[2]/USART2 - RTS/TC1 - A2/CANIF - RXLINE[1] (io), 51 PC02/GPIO 66/TWIMS0 - TWD/SPI0 - NPCS[3]/USART2 - RXD/TC1 - CLK1/MACB - MDC (io), 52 PC03/GPIO 67/TWIMS0 - TWCK/EIC - EXTINT[1]/USART2 - TXD/TC1 - B1/MACB - MDIO (io), 55 PC04/GPIO 68/TWIMS1 - TWD/EIC - EXTINT[3]/USART2 - TXD/TC0 - B1/MDO[4] (io), 56 PC05/GPIO 69/TWIMS1 - TWCK/EIC - EXTINT[4]/USART2 - RXD/TC0 - A2/MDO[5] (io), 57 PC06/GPIO 70/PEVC -PAD_EVT [15]/USART2 - CLK/USART2 - CTS/TC0 - CLK2/TWIMS2 - TWD/TWIMS0 - TWALM (io), 58 PC07/GPIO 71/PEVC -PAD_EVT [2]/EBI - NCS[3]/USART2 - RTS/TC0 - B2/TWIMS2 - TWCK/TWIMS1 - TWALM (io), 59 PC11/GPIO 75/PWM - PWMH[3]/CANIF - RXLINE[1]/EBI -ADDR[21]/TC0 - CLK0/MDO[3] (io), 60 PC12/GPIO 76/PWM - PWML[3]/CANIF - TXLINE[1]/EBI -ADDR[20]/USART2 - CLK/MDO[4] (io), 61 PC13/GPIO 77/PWM - PWMH[2]/EIC - EXTINT[7]//USART0 - RTS (io), 62 PC14/GPIO 78/PWM - PWML[2]/USART0 - CLK/EBI -SDCKE/USART0 - CTS (io), 63 PC15/GPIO 79/PWM - PWMH[1]/SPI0 - NPCS[0]/EBI -SDWE/USART0 - RXD/CANIF - RXLINE[1] (io), 64 PC16/GPIO 80/PWM - PWML[1]/SPI0 - NPCS[1]/EBI - CAS/USART0 - TXD/CANIF - TXLINE[1] (io), 65 PC17/GPIO 81/PWM - PWMH[0]/SPI0 - NPCS[2]/EBI - RAS/IISC -ISDO/USART3 - TXD (io), 66 PC18/GPIO 82/PWM - PWML[0]/EIC - EXTINT[5]/EBI -SDA10/IISC -ISDI/USART3 - RXD (io), 67 PC19/GPIO 83/PWM - PWML[2]/SCIF -GCLK[0]/EBI -DATA[0]/IISC -IMCK/USART3 - CTS (io), 68 PC20/GPIO 84/PWM - PWMH[2]/SCIF -GCLK[1]/EBI -DATA[1]/IISC -ISCK/USART3 - RTS (io), 69 PC21/GPIO 85/PWM - EXT_ FAULTS[0]/CANIF - RXLINE[0]/EBI -DATA[2]/IISC - IWS (io), 70 PC22/GPIO 86/PWM - EXT_ FAULTS[1]/CANIF - TXLINE[0]/EBI -DATA[3]/USART3 -CLK (io), 71 PC23/GPIO 87/QDEC1 -QEPB/CANIF - RXLINE[1]/EBI -DATA[4]/PEVC -PAD_EVT [3] (io), 72 PC24/GPIO 88/QDEC1 -QEPA/CANIF - TXLINE[1]/EBI -DATA[5]/PEVC -PAD_EVT [4] (io), 73 PC31/GPIO 95/SPI0 -NPCS[3]/TC1 - B0/EBI -DATA[12]/PEVC -PAD_EVT [5]/USART4 -CLK/MDO[5] (io)
part D pins: 74 PD00/GPIO 96/SPI0 -MOSI/TC1 -CLK0/EBI -DATA[13]/QDEC0 -QEPI/USART0 -TXD (io), 75 PD01/GPIO 97/SPI0 -MISO/TC1 - A0/EBI -DATA[14]/TC0 - CLK1/USART0 -RXD (io), 76 PD02/GPIO 98/SPI0 -SCK/TC0 -CLK2/EBI -DATA[15]/QDEC0 -QEPA (io), 77 PD03/GPIO 99/SPI0 -NPCS[0]/TC0 - B2/EBI -ADDR[0]/QDEC0 -QEPB (io), 78 PD07/GPIO 103/USART1 - DTR/EIC - EXTINT[5]/EBI -ADDR[4]/QDEC0 -QEPI/USART4 -TXD/MSEO[0] (io), 79 PD08/GPIO 104/USART1 - DSR/EIC - EXTINT[6]/EBI -ADDR[5]/TC1 - CLK2/USART4 -RXD/MSEO[1] (io), 80 PD09/GPIO 105/USART1 - DCD/CANIF - RXLINE[0]/EBI -ADDR[6]/QDEC0 -QEPA/USART4 -CTS (io), 81 PD10/GPIO 106/USART1 - RI/CANIF - TXLINE[0]/EBI -ADDR[7]/QDEC0 -QEPB/USART4 -RTS (io), 84 PD11/GPIO 107/USART1 - TXD/USBC - ID/EBI -ADDR[8]/PEVC -PAD_EVT [6]/MACB - TXD[0] (io), 85 PD12/GPIO 108/USART1 - RXD/USBC -VBOF/EBI -ADDR[9]/PEVC -PAD_EVT [7]/MACB - TXD[1] (io), 86 PD13/GPIO 109/USART1 - CTS/USART1 - CLK/EBI -SDCK/PEVC -PAD_EVT [8]/MACB - RXD[0]/MCKO (io), 87 PD14/GPIO 110/USART1 - RTS/EIC - EXTINT[7]/EBI -ADDR[10]/PEVC -PAD_EVT [9]/MACB - RXD[1]/MSEO[0] (io), 88 PD21/GPIO 117/USART3 - TXD/EIC - EXTINT[0]/EBI -ADDR[17]/QDEC1 -QEPI (io), 89 PD22/GPIO 118/USART3 - RXD/TC0 - A2/EBI -ADDR[18]/SCIF - GCLK[0] (io), 90 PD23/GPIO 119/USART3 - CTS/USART3 - CLK/EBI -ADDR[19]/QDEC1 -QEPA (io), 91 PD24/GPIO 120/USART3 - RTS/EIC - EXTINT[8]/EBI -NWE1/QDEC1 -QEPB (io), 92 PD27/GPIO 123/USART0 - TXD/CANIF - RXLINE[0]/EBI -NCS[1]/TC0 - A0/MACB - RX_ER (io), 93 PD28/GPIO 124/USART0 - RXD/CANIF - TXLINE[0]/EBI -NCS[2]/TC0 - B0/MACB - RX_DV (io), 94 PD29/GPIO 125/USART0 - CTS/EIC - EXTINT[6]/USART0 - CLK/TC0 - CLK0/MACB - TX_CLK/EVTO_N (io), 95 PD30/GPIO 126/USART0 - RTS/EIC - EXTINT[3]/EBI -NWAIT/TC0 - A1/MACB - TX_EN/MSEO[1] (io)
part E pins: 23 ADCVREFP (in), 24 ADCVREFN (in), 34 VBUS (in), 35 DM (io), 36 DP (io), 98 RESET_N/DATA (io)
part F pins: 5 VDDIO1 (power), 6 GNDIO1 (power), 26 GNDANA (power), 27 VDDANA (power), 37 GNDPLL (power), 38 VDDIN_5 (power), 39 VDDIN_33 (power), 40 VDDCORE (power), 41 GNDCORE (power), 53 VDDIO2 (power), 54 GNDIO2 (power), 82 VDDIO3 (power), 83 GNDIO3 (power)

## AT32UC3C2128C-A2UR
designator U?
32-bit AVR UC3 C Series Microcontroller, 128KB Flash, 36KB SRAM, 45 GPIO pins, Industrial Grade, 64- Pin TQFP, Reel; DatasheetVersion: revC, Aug-2011; PackageVersion: 2011; PackageReference: TQFP64; PackageDescription: 64-Pin Thin Quad Flat Pack, 10 x 10 x 1.0 mm Body, 0.5 mm Pitch; Code_JEDEC: MS-026; ComponentLink1Description: Manufacturer URL; ComponentLink1URL: http://www.atmel.com/; ComponentLink2Description: AT32UC3C Datasheet; ComponentLink2URL: http://www.atmel.com/dyn/resources/prod_documents/doc32117.pdf; ComponentLink3Description: AT32UC3C Summary; ComponentLink3URL: http://www.atmel.com/dyn/resources/prod_documents/32117s.pdf
footprint TQFP64_N (Thin QFP, 64-Leads, Body 10x10mm, Pitch 0.5mm, IPC Medium Density)
footprint TQFP64_L (Thin QFP, 64-Leads, Body 10x10mm, Pitch 0.5mm, IPC High Density)
footprint TQFP64_M (Thin QFP, 64-Leads, Body 10x10mm, Pitch 0.5mm, IPC Low Density)
part A pins: 1 PA00/GPIO 0/CANIF - TXLINE[1]/TCK (io), 2 PA01/GPIO 1/CANIF - RXLINE[1]/PEVC - PAD_EVT [0]/TDI (io), 3 PA02/GPIO 2/SCIF - GCLK[0]/PEVC - PAD_EVT [1]/TDO/DATAOUT (io), 4 PA03/GPIO 3/SCIF - GCLK[1]/EIC - EXTINT[1]/TMS (io), 7 PA04/GPIO 4/ADCIN0/USBC - ID/ACIFA0 - ACAOUT (io), 8 PA05/GPIO 5/ADCIN1/USBC -VBOF/ACIFA0 - ACBOUT (io), 9 PA06/GPIO 6/ADCIN2/AC1AP1/PEVC - PAD_EVT [2] (io), 10 PA07/GPIO 7/ADCIN3/AC1AN1/PEVC - PAD_EVT [3] (io), 11 PA08/GPIO 8/ADCIN4/AC1BP1/EIC - EXTINT[2]/EVTI_N (io), 12 PA09/GPIO 9/ADCIN5/AC1BN1/MDO[0] (io), 13 PA16/GPIO 16/ADCREF0/DACREF (io), 16 PA19/GPIO 19/ADCIN8/EIC - EXTINT[1]/MDO[0]/MDO[1] (io), 19 PA20/GPIO 20/ADCIN9/AC0AP0/AC0AP0/DAC0A (io), 20 PA21/GPIO 21/ADCIN10/AC0BN0/AC0BN0/DAC0B (io), 21 PA22/GPIO 22/ADCIN11/AC0AN0/PEVC - PAD_EVT [4]/MACB - SPEED/MDO[2] (io), 22 PA23/GPIO 23/ADCIN12/AC0BP0/PEVC - PAD_EVT [5]/MACB - WOL/MDO[3] (io)
part B pins: 31 PB30/GPIO 62/xin0 (io), 32 PB31/GPIO 63/xout0 (io), 62 PB00/GPIO 32/USART0 - CLK/CANIF - RXLINE[1]/EIC - EXTINT[8]/PEVC -PAD_EVT [10]/xin32 (io), 63 PB01/GPIO 33/CANIF - TXLINE[1]/PEVC -PAD_EVT [11]/xout32 (io)
part C pins: 33 PC02/GPIO 66/TWIMS0 - TWD/SPI0 - NPCS[3]/USART2 - RXD/TC1 - CLK1/MACB - MDC (io), 34 PC03/GPIO 67/TWIMS0 - TWCK/EIC - EXTINT[1]/USART2 - TXD/TC1 - B1/MACB - MDIO (io), 37 PC04/GPIO 68/TWIMS1 - TWD/EIC - EXTINT[3]/USART2 - TXD/TC0 - B1/MDO[4] (io), 38 PC05/GPIO 69/TWIMS1 - TWCK/EIC - EXTINT[4]/USART2 - RXD/TC0 - A2/MDO[5] (io), 39 PC15/GPIO 79/PWM - PWMH[1]/SPI0 - NPCS[0]/EBI -SDWE/USART0 - RXD/CANIF - RXLINE[1] (io), 40 PC16/GPIO 80/PWM - PWML[1]/SPI0 - NPCS[1]/EBI - CAS/USART0 - TXD/CANIF - TXLINE[1] (io), 41 PC17/GPIO 81/PWM - PWMH[0]/SPI0 - NPCS[2]/EBI - RAS/IISC -ISDO/USART3 - TXD (io), 42 PC18/GPIO 82/PWM - PWML[0]/EIC - EXTINT[5]/EBI -SDA10/IISC -ISDI/USART3 - RXD (io), 43 PC19/GPIO 83/PWM - PWML[2]/SCIF -GCLK[0]/EBI -DATA[0]/IISC -IMCK/USART3 - CTS (io), 44 PC20/GPIO 84/PWM - PWMH[2]/SCIF -GCLK[1]/EBI -DATA[1]/IISC -ISCK/USART3 - RTS (io), 45 PC21/GPIO 85/PWM - EXT_ FAULTS[0]/CANIF - RXLINE[0]/EBI -DATA[2]/IISC - IWS (io), 46 PC22/GPIO 86/PWM - EXT_ FAULTS[1]/CANIF - TXLINE[0]/EBI -DATA[3]/USART3 -CLK (io)
part D pins: 47 PD00/GPIO 96/SPI0 -MOSI/TC1 -CLK0/EBI -DATA[13]/QDEC0 -QEPI/USART0 -TXD (io), 48 PD01/GPIO 97/SPI0 -MISO/TC1 - A0/EBI -DATA[14]/TC0 - CLK1/USART0 -RXD (io), 49 PD02/GPIO 98/SPI0 -SCK/TC0 -CLK2/EBI -DATA[15]/QDEC0 -QEPA (io), 50 PD03/GPIO 99/SPI0 -NPCS[0]/TC0 - B2/EBI -ADDR[0]/QDEC0 -QEPB (io), 53 PD11/GPIO 107/USART1 - TXD/USBC - ID/EBI -ADDR[8]/PEVC -PAD_EVT [6]/MACB - TXD[0] (io), 54 PD12/GPIO 108/USART1 - RXD/USBC -VBOF/EBI -ADDR[9]/PEVC -PAD_EVT [7]/MACB - TXD[1] (io), 55 PD13/GPIO 109/USART1 - CTS/USART1 - CLK/EBI -SDCK/PEVC -PAD_EVT [8]/MACB - RXD[0]/MCKO (io), 56 PD14/GPIO 110/USART1 - RTS/EIC - EXTINT[7]/EBI -ADDR[10]/PEVC -PAD_EVT [9]/MACB - RXD[1]/MSEO[0] (io), 57 PD21/GPIO 117/USART3 - TXD/EIC - EXTINT[0]/EBI -ADDR[17]/QDEC1 -QEPI (io), 58 PD27/GPIO 123/USART0 - TXD/CANIF - RXLINE[0]/EBI -NCS[1]/TC0 - A0/MACB - RX_ER (io), 59 PD28/GPIO 124/USART0 - RXD/CANIF - TXLINE[0]/EBI -NCS[2]/TC0 - B0/MACB - RX_DV (io), 60 PD29/GPIO 125/USART0 - CTS/EIC - EXTINT[6]/USART0 - CLK/TC0 - CLK0/MACB - TX_CLK/EVTO_N (io), 61 PD30/GPIO 126/USART0 - RTS/EIC - EXTINT[3]/EBI -NWAIT/TC0 - A1/MACB - TX_EN/MSEO[1] (io)
part E pins: 14 ADCVREFP (in), 15 ADCVREFN (in), 23 VBUS (in), 24 DM (io), 25 DP (io), 64 RESET_N/DATA (io)
part F pins: 5 VDDIO1 (power), 6 GNDIO1 (power), 17 GNDANA (power), 18 VDDANA (power), 26 GNDPLL (power), 27 VDDIN_5 (power), 28 VDDIN_33 (power), 29 VDDCORE (power), 30 GNDCORE (power), 35 VDDIO2 (power), 36 GNDIO2 (power), 51 VDDIO3 (power), 52 GNDIO3 (power)

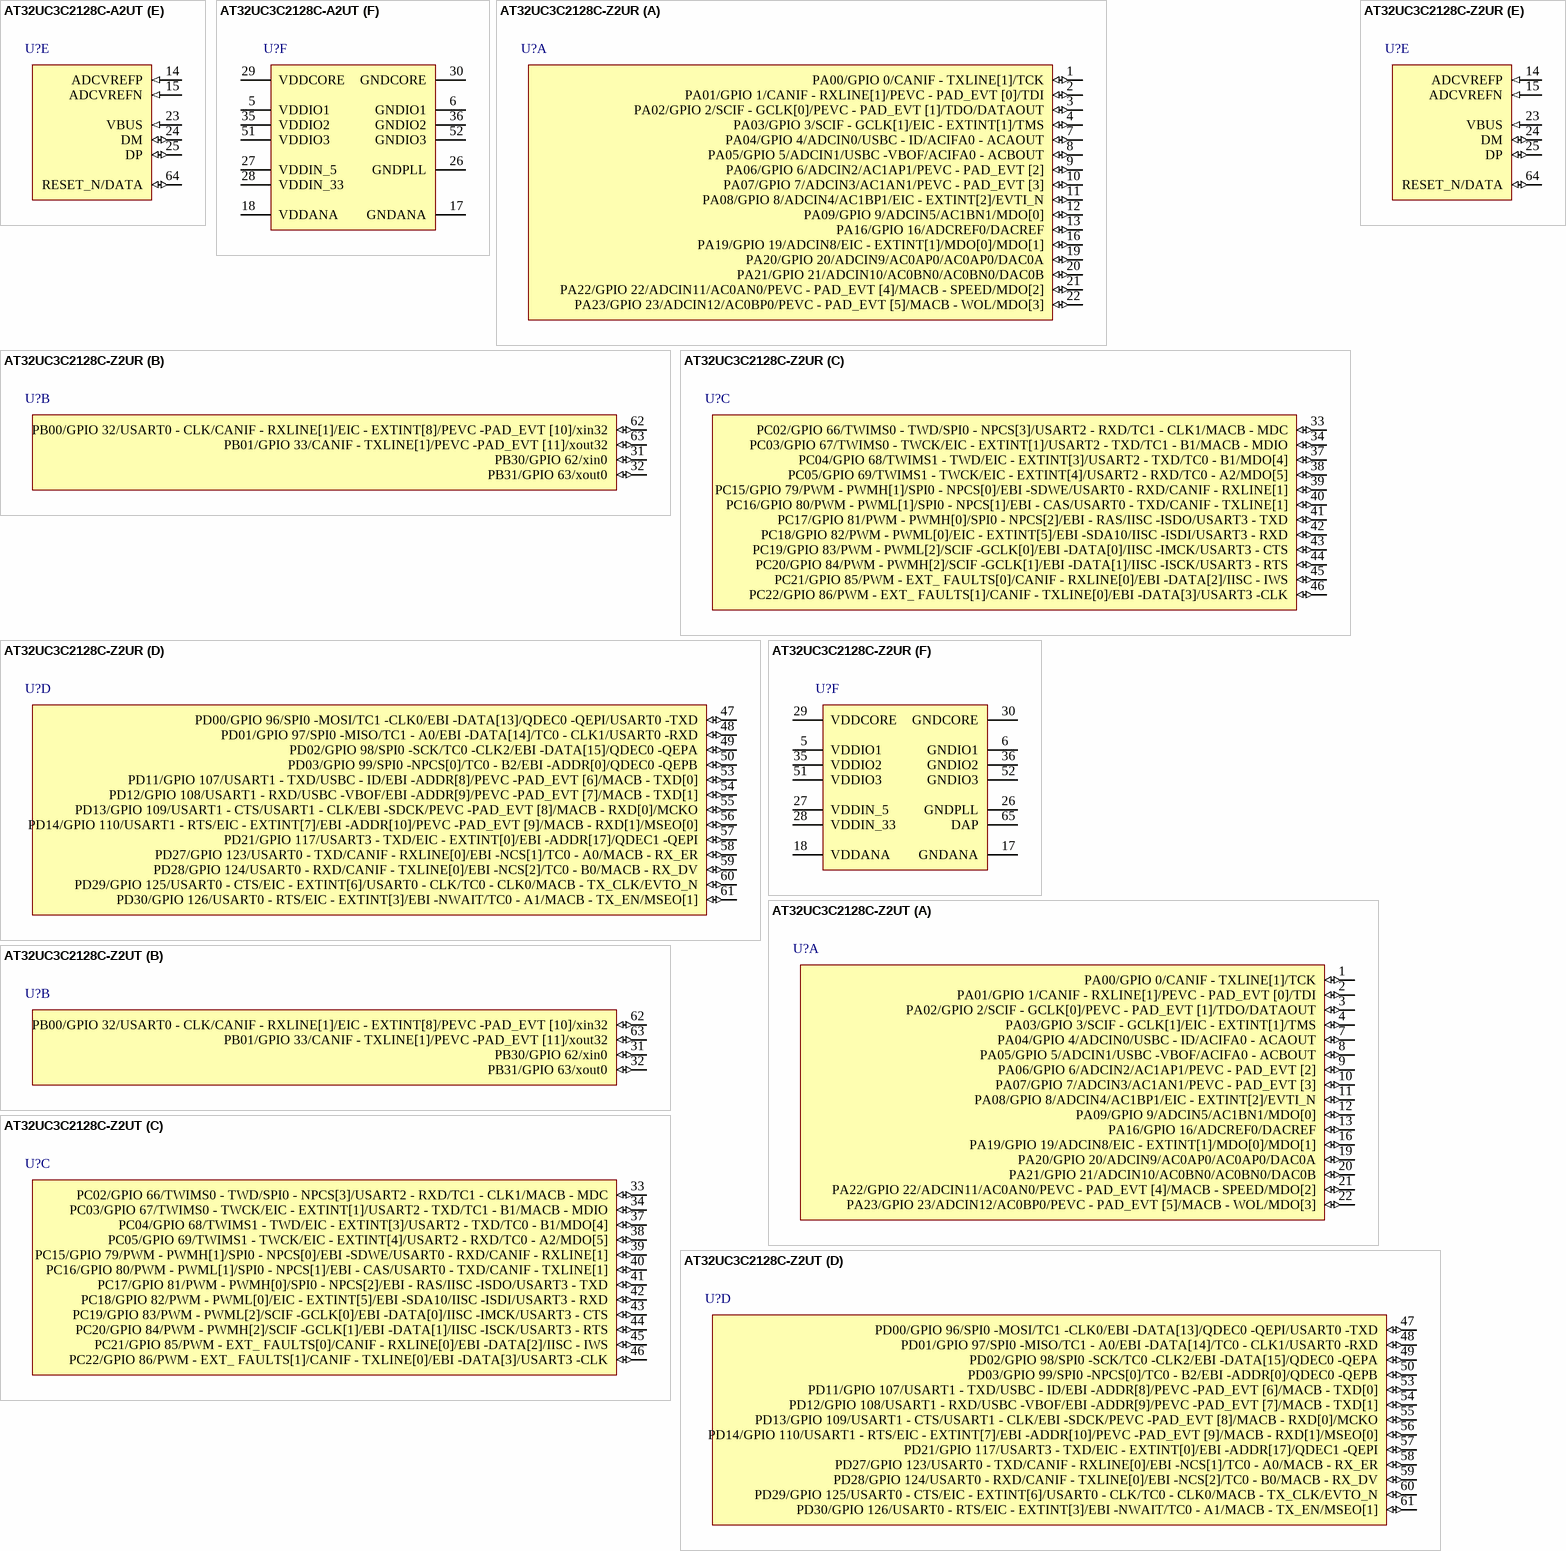
[diagram p88: symbols AT32UC3C2128C-A2UT to AT32UC3C2128C-Z2UT]

## AT32UC3C2128C-A2UT
designator U?
32-bit AVR UC3 C Series Microcontroller, 128KB Flash, 36KB SRAM, 45 GPIO pins, Industrial Grade, 64- Pin TQFP, Tray; DatasheetVersion: revC, Aug-2011; PackageVersion: 2011; PackageReference: TQFP64; PackageDescription: 64-Pin Thin Quad Flat Pack, 10 x 10 x 1.0 mm Body, 0.5 mm Pitch; Code_JEDEC: MS-026; ComponentLink1Description: Manufacturer URL; ComponentLink1URL: http://www.atmel.com/; ComponentLink2Description: AT32UC3C Datasheet; ComponentLink2URL: http://www.atmel.com/dyn/resources/prod_documents/doc32117.pdf; ComponentLink3Description: AT32UC3C Summary; ComponentLink3URL: http://www.atmel.com/dyn/resources/prod_documents/32117s.pdf
footprint TQFP64_N (Thin QFP, 64-Leads, Body 10x10mm, Pitch 0.5mm, IPC Medium Density)
footprint TQFP64_L (Thin QFP, 64-Leads, Body 10x10mm, Pitch 0.5mm, IPC High Density)
footprint TQFP64_M (Thin QFP, 64-Leads, Body 10x10mm, Pitch 0.5mm, IPC Low Density)
part A pins: 1 PA00/GPIO 0/CANIF - TXLINE[1]/TCK (io), 2 PA01/GPIO 1/CANIF - RXLINE[1]/PEVC - PAD_EVT [0]/TDI (io), 3 PA02/GPIO 2/SCIF - GCLK[0]/PEVC - PAD_EVT [1]/TDO/DATAOUT (io), 4 PA03/GPIO 3/SCIF - GCLK[1]/EIC - EXTINT[1]/TMS (io), 7 PA04/GPIO 4/ADCIN0/USBC - ID/ACIFA0 - ACAOUT (io), 8 PA05/GPIO 5/ADCIN1/USBC -VBOF/ACIFA0 - ACBOUT (io), 9 PA06/GPIO 6/ADCIN2/AC1AP1/PEVC - PAD_EVT [2] (io), 10 PA07/GPIO 7/ADCIN3/AC1AN1/PEVC - PAD_EVT [3] (io), 11 PA08/GPIO 8/ADCIN4/AC1BP1/EIC - EXTINT[2]/EVTI_N (io), 12 PA09/GPIO 9/ADCIN5/AC1BN1/MDO[0] (io), 13 PA16/GPIO 16/ADCREF0/DACREF (io), 16 PA19/GPIO 19/ADCIN8/EIC - EXTINT[1]/MDO[0]/MDO[1] (io), 19 PA20/GPIO 20/ADCIN9/AC0AP0/AC0AP0/DAC0A (io), 20 PA21/GPIO 21/ADCIN10/AC0BN0/AC0BN0/DAC0B (io), 21 PA22/GPIO 22/ADCIN11/AC0AN0/PEVC - PAD_EVT [4]/MACB - SPEED/MDO[2] (io), 22 PA23/GPIO 23/ADCIN12/AC0BP0/PEVC - PAD_EVT [5]/MACB - WOL/MDO[3] (io)
part B pins: 31 PB30/GPIO 62/xin0 (io), 32 PB31/GPIO 63/xout0 (io), 62 PB00/GPIO 32/USART0 - CLK/CANIF - RXLINE[1]/EIC - EXTINT[8]/PEVC -PAD_EVT [10]/xin32 (io), 63 PB01/GPIO 33/CANIF - TXLINE[1]/PEVC -PAD_EVT [11]/xout32 (io)
part C pins: 33 PC02/GPIO 66/TWIMS0 - TWD/SPI0 - NPCS[3]/USART2 - RXD/TC1 - CLK1/MACB - MDC (io), 34 PC03/GPIO 67/TWIMS0 - TWCK/EIC - EXTINT[1]/USART2 - TXD/TC1 - B1/MACB - MDIO (io), 37 PC04/GPIO 68/TWIMS1 - TWD/EIC - EXTINT[3]/USART2 - TXD/TC0 - B1/MDO[4] (io), 38 PC05/GPIO 69/TWIMS1 - TWCK/EIC - EXTINT[4]/USART2 - RXD/TC0 - A2/MDO[5] (io), 39 PC15/GPIO 79/PWM - PWMH[1]/SPI0 - NPCS[0]/EBI -SDWE/USART0 - RXD/CANIF - RXLINE[1] (io), 40 PC16/GPIO 80/PWM - PWML[1]/SPI0 - NPCS[1]/EBI - CAS/USART0 - TXD/CANIF - TXLINE[1] (io), 41 PC17/GPIO 81/PWM - PWMH[0]/SPI0 - NPCS[2]/EBI - RAS/IISC -ISDO/USART3 - TXD (io), 42 PC18/GPIO 82/PWM - PWML[0]/EIC - EXTINT[5]/EBI -SDA10/IISC -ISDI/USART3 - RXD (io), 43 PC19/GPIO 83/PWM - PWML[2]/SCIF -GCLK[0]/EBI -DATA[0]/IISC -IMCK/USART3 - CTS (io), 44 PC20/GPIO 84/PWM - PWMH[2]/SCIF -GCLK[1]/EBI -DATA[1]/IISC -ISCK/USART3 - RTS (io), 45 PC21/GPIO 85/PWM - EXT_ FAULTS[0]/CANIF - RXLINE[0]/EBI -DATA[2]/IISC - IWS (io), 46 PC22/GPIO 86/PWM - EXT_ FAULTS[1]/CANIF - TXLINE[0]/EBI -DATA[3]/USART3 -CLK (io)
part D pins: 47 PD00/GPIO 96/SPI0 -MOSI/TC1 -CLK0/EBI -DATA[13]/QDEC0 -QEPI/USART0 -TXD (io), 48 PD01/GPIO 97/SPI0 -MISO/TC1 - A0/EBI -DATA[14]/TC0 - CLK1/USART0 -RXD (io), 49 PD02/GPIO 98/SPI0 -SCK/TC0 -CLK2/EBI -DATA[15]/QDEC0 -QEPA (io), 50 PD03/GPIO 99/SPI0 -NPCS[0]/TC0 - B2/EBI -ADDR[0]/QDEC0 -QEPB (io), 53 PD11/GPIO 107/USART1 - TXD/USBC - ID/EBI -ADDR[8]/PEVC -PAD_EVT [6]/MACB - TXD[0] (io), 54 PD12/GPIO 108/USART1 - RXD/USBC -VBOF/EBI -ADDR[9]/PEVC -PAD_EVT [7]/MACB - TXD[1] (io), 55 PD13/GPIO 109/USART1 - CTS/USART1 - CLK/EBI -SDCK/PEVC -PAD_EVT [8]/MACB - RXD[0]/MCKO (io), 56 PD14/GPIO 110/USART1 - RTS/EIC - EXTINT[7]/EBI -ADDR[10]/PEVC -PAD_EVT [9]/MACB - RXD[1]/MSEO[0] (io), 57 PD21/GPIO 117/USART3 - TXD/EIC - EXTINT[0]/EBI -ADDR[17]/QDEC1 -QEPI (io), 58 PD27/GPIO 123/USART0 - TXD/CANIF - RXLINE[0]/EBI -NCS[1]/TC0 - A0/MACB - RX_ER (io), 59 PD28/GPIO 124/USART0 - RXD/CANIF - TXLINE[0]/EBI -NCS[2]/TC0 - B0/MACB - RX_DV (io), 60 PD29/GPIO 125/USART0 - CTS/EIC - EXTINT[6]/USART0 - CLK/TC0 - CLK0/MACB - TX_CLK/EVTO_N (io), 61 PD30/GPIO 126/USART0 - RTS/EIC - EXTINT[3]/EBI -NWAIT/TC0 - A1/MACB - TX_EN/MSEO[1] (io)
part E pins: 14 ADCVREFP (in), 15 ADCVREFN (in), 23 VBUS (in), 24 DM (io), 25 DP (io), 64 RESET_N/DATA (io)
part F pins: 5 VDDIO1 (power), 6 GNDIO1 (power), 17 GNDANA (power), 18 VDDANA (power), 26 GNDPLL (power), 27 VDDIN_5 (power), 28 VDDIN_33 (power), 29 VDDCORE (power), 30 GNDCORE (power), 35 VDDIO2 (power), 36 GNDIO2 (power), 51 VDDIO3 (power), 52 GNDIO3 (power)

## AT32UC3C2128C-Z2UR
designator U?
32-bit AVR UC3 C Series Microcontroller, 128KB Flash, 36KB SRAM, 45 GPIO pins, Industrial Grade, 64- Pin QFN, Reel; DatasheetVersion: revC, Aug-2011; PackageVersion: 2011; PackageReference: Z64-2; PackageDescription: 64-Pin Quad Flat No-Lead, 9 x 9 mm Body, 0.5 mm Pitch, 6 x 6 mm Exposed Pad; Code_JEDEC: MO-220VMMD-3; ComponentLink1Description: Manufacturer URL; ComponentLink1URL: http://www.atmel.com/; ComponentLink2Description: AT32UC3C Datasheet; ComponentLink2URL: http://www.atmel.com/dyn/resources/prod_documents/doc32117.pdf; ComponentLink3Description: AT32UC3C Summary; ComponentLink3URL: http://www.atmel.com/dyn/resources/prod_documents/32117s.pdf
footprint Z64-2_N (QFN, 64-Leads, Body 9x9mm, Pitch 0.5mm, Thermal Pad 6.1x6.1mm, IPC Medium Density)
footprint Z64-2_L (QFN, 64-Leads, Body 9x9mm, Pitch 0.5mm, Thermal Pad 6.1x6.1mm, IPC High Density)
footprint Z64-2_M (QFN, 64-Leads, Body 9x9mm, Pitch 0.5mm, Thermal Pad 6.1x6.1mm, IPC Low Density)
part A pins: 1 PA00/GPIO 0/CANIF - TXLINE[1]/TCK (io), 2 PA01/GPIO 1/CANIF - RXLINE[1]/PEVC - PAD_EVT [0]/TDI (io), 3 PA02/GPIO 2/SCIF - GCLK[0]/PEVC - PAD_EVT [1]/TDO/DATAOUT (io), 4 PA03/GPIO 3/SCIF - GCLK[1]/EIC - EXTINT[1]/TMS (io), 7 PA04/GPIO 4/ADCIN0/USBC - ID/ACIFA0 - ACAOUT (io), 8 PA05/GPIO 5/ADCIN1/USBC -VBOF/ACIFA0 - ACBOUT (io), 9 PA06/GPIO 6/ADCIN2/AC1AP1/PEVC - PAD_EVT [2] (io), 10 PA07/GPIO 7/ADCIN3/AC1AN1/PEVC - PAD_EVT [3] (io), 11 PA08/GPIO 8/ADCIN4/AC1BP1/EIC - EXTINT[2]/EVTI_N (io), 12 PA09/GPIO 9/ADCIN5/AC1BN1/MDO[0] (io), 13 PA16/GPIO 16/ADCREF0/DACREF (io), 16 PA19/GPIO 19/ADCIN8/EIC - EXTINT[1]/MDO[0]/MDO[1] (io), 19 PA20/GPIO 20/ADCIN9/AC0AP0/AC0AP0/DAC0A (io), 20 PA21/GPIO 21/ADCIN10/AC0BN0/AC0BN0/DAC0B (io), 21 PA22/GPIO 22/ADCIN11/AC0AN0/PEVC - PAD_EVT [4]/MACB - SPEED/MDO[2] (io), 22 PA23/GPIO 23/ADCIN12/AC0BP0/PEVC - PAD_EVT [5]/MACB - WOL/MDO[3] (io)
part B pins: 31 PB30/GPIO 62/xin0 (io), 32 PB31/GPIO 63/xout0 (io), 62 PB00/GPIO 32/USART0 - CLK/CANIF - RXLINE[1]/EIC - EXTINT[8]/PEVC -PAD_EVT [10]/xin32 (io), 63 PB01/GPIO 33/CANIF - TXLINE[1]/PEVC -PAD_EVT [11]/xout32 (io)
part C pins: 33 PC02/GPIO 66/TWIMS0 - TWD/SPI0 - NPCS[3]/USART2 - RXD/TC1 - CLK1/MACB - MDC (io), 34 PC03/GPIO 67/TWIMS0 - TWCK/EIC - EXTINT[1]/USART2 - TXD/TC1 - B1/MACB - MDIO (io), 37 PC04/GPIO 68/TWIMS1 - TWD/EIC - EXTINT[3]/USART2 - TXD/TC0 - B1/MDO[4] (io), 38 PC05/GPIO 69/TWIMS1 - TWCK/EIC - EXTINT[4]/USART2 - RXD/TC0 - A2/MDO[5] (io), 39 PC15/GPIO 79/PWM - PWMH[1]/SPI0 - NPCS[0]/EBI -SDWE/USART0 - RXD/CANIF - RXLINE[1] (io), 40 PC16/GPIO 80/PWM - PWML[1]/SPI0 - NPCS[1]/EBI - CAS/USART0 - TXD/CANIF - TXLINE[1] (io), 41 PC17/GPIO 81/PWM - PWMH[0]/SPI0 - NPCS[2]/EBI - RAS/IISC -ISDO/USART3 - TXD (io), 42 PC18/GPIO 82/PWM - PWML[0]/EIC - EXTINT[5]/EBI -SDA10/IISC -ISDI/USART3 - RXD (io), 43 PC19/GPIO 83/PWM - PWML[2]/SCIF -GCLK[0]/EBI -DATA[0]/IISC -IMCK/USART3 - CTS (io), 44 PC20/GPIO 84/PWM - PWMH[2]/SCIF -GCLK[1]/EBI -DATA[1]/IISC -ISCK/USART3 - RTS (io), 45 PC21/GPIO 85/PWM - EXT_ FAULTS[0]/CANIF - RXLINE[0]/EBI -DATA[2]/IISC - IWS (io), 46 PC22/GPIO 86/PWM - EXT_ FAULTS[1]/CANIF - TXLINE[0]/EBI -DATA[3]/USART3 -CLK (io)
part D pins: 47 PD00/GPIO 96/SPI0 -MOSI/TC1 -CLK0/EBI -DATA[13]/QDEC0 -QEPI/USART0 -TXD (io), 48 PD01/GPIO 97/SPI0 -MISO/TC1 - A0/EBI -DATA[14]/TC0 - CLK1/USART0 -RXD (io), 49 PD02/GPIO 98/SPI0 -SCK/TC0 -CLK2/EBI -DATA[15]/QDEC0 -QEPA (io), 50 PD03/GPIO 99/SPI0 -NPCS[0]/TC0 - B2/EBI -ADDR[0]/QDEC0 -QEPB (io), 53 PD11/GPIO 107/USART1 - TXD/USBC - ID/EBI -ADDR[8]/PEVC -PAD_EVT [6]/MACB - TXD[0] (io), 54 PD12/GPIO 108/USART1 - RXD/USBC -VBOF/EBI -ADDR[9]/PEVC -PAD_EVT [7]/MACB - TXD[1] (io), 55 PD13/GPIO 109/USART1 - CTS/USART1 - CLK/EBI -SDCK/PEVC -PAD_EVT [8]/MACB - RXD[0]/MCKO (io), 56 PD14/GPIO 110/USART1 - RTS/EIC - EXTINT[7]/EBI -ADDR[10]/PEVC -PAD_EVT [9]/MACB - RXD[1]/MSEO[0] (io), 57 PD21/GPIO 117/USART3 - TXD/EIC - EXTINT[0]/EBI -ADDR[17]/QDEC1 -QEPI (io), 58 PD27/GPIO 123/USART0 - TXD/CANIF - RXLINE[0]/EBI -NCS[1]/TC0 - A0/MACB - RX_ER (io), 59 PD28/GPIO 124/USART0 - RXD/CANIF - TXLINE[0]/EBI -NCS[2]/TC0 - B0/MACB - RX_DV (io), 60 PD29/GPIO 125/USART0 - CTS/EIC - EXTINT[6]/USART0 - CLK/TC0 - CLK0/MACB - TX_CLK/EVTO_N (io), 61 PD30/GPIO 126/USART0 - RTS/EIC - EXTINT[3]/EBI -NWAIT/TC0 - A1/MACB - TX_EN/MSEO[1] (io)
part E pins: 14 ADCVREFP (in), 15 ADCVREFN (in), 23 VBUS (in), 24 DM (io), 25 DP (io), 64 RESET_N/DATA (io)
part F pins: 5 VDDIO1 (power), 6 GNDIO1 (power), 17 GNDANA (power), 18 VDDANA (power), 26 GNDPLL (power), 27 VDDIN_5 (power), 28 VDDIN_33 (power), 29 VDDCORE (power), 30 GNDCORE (power), 35 VDDIO2 (power), 36 GNDIO2 (power), 51 VDDIO3 (power), 52 GNDIO3 (power), 65 DAP (power)

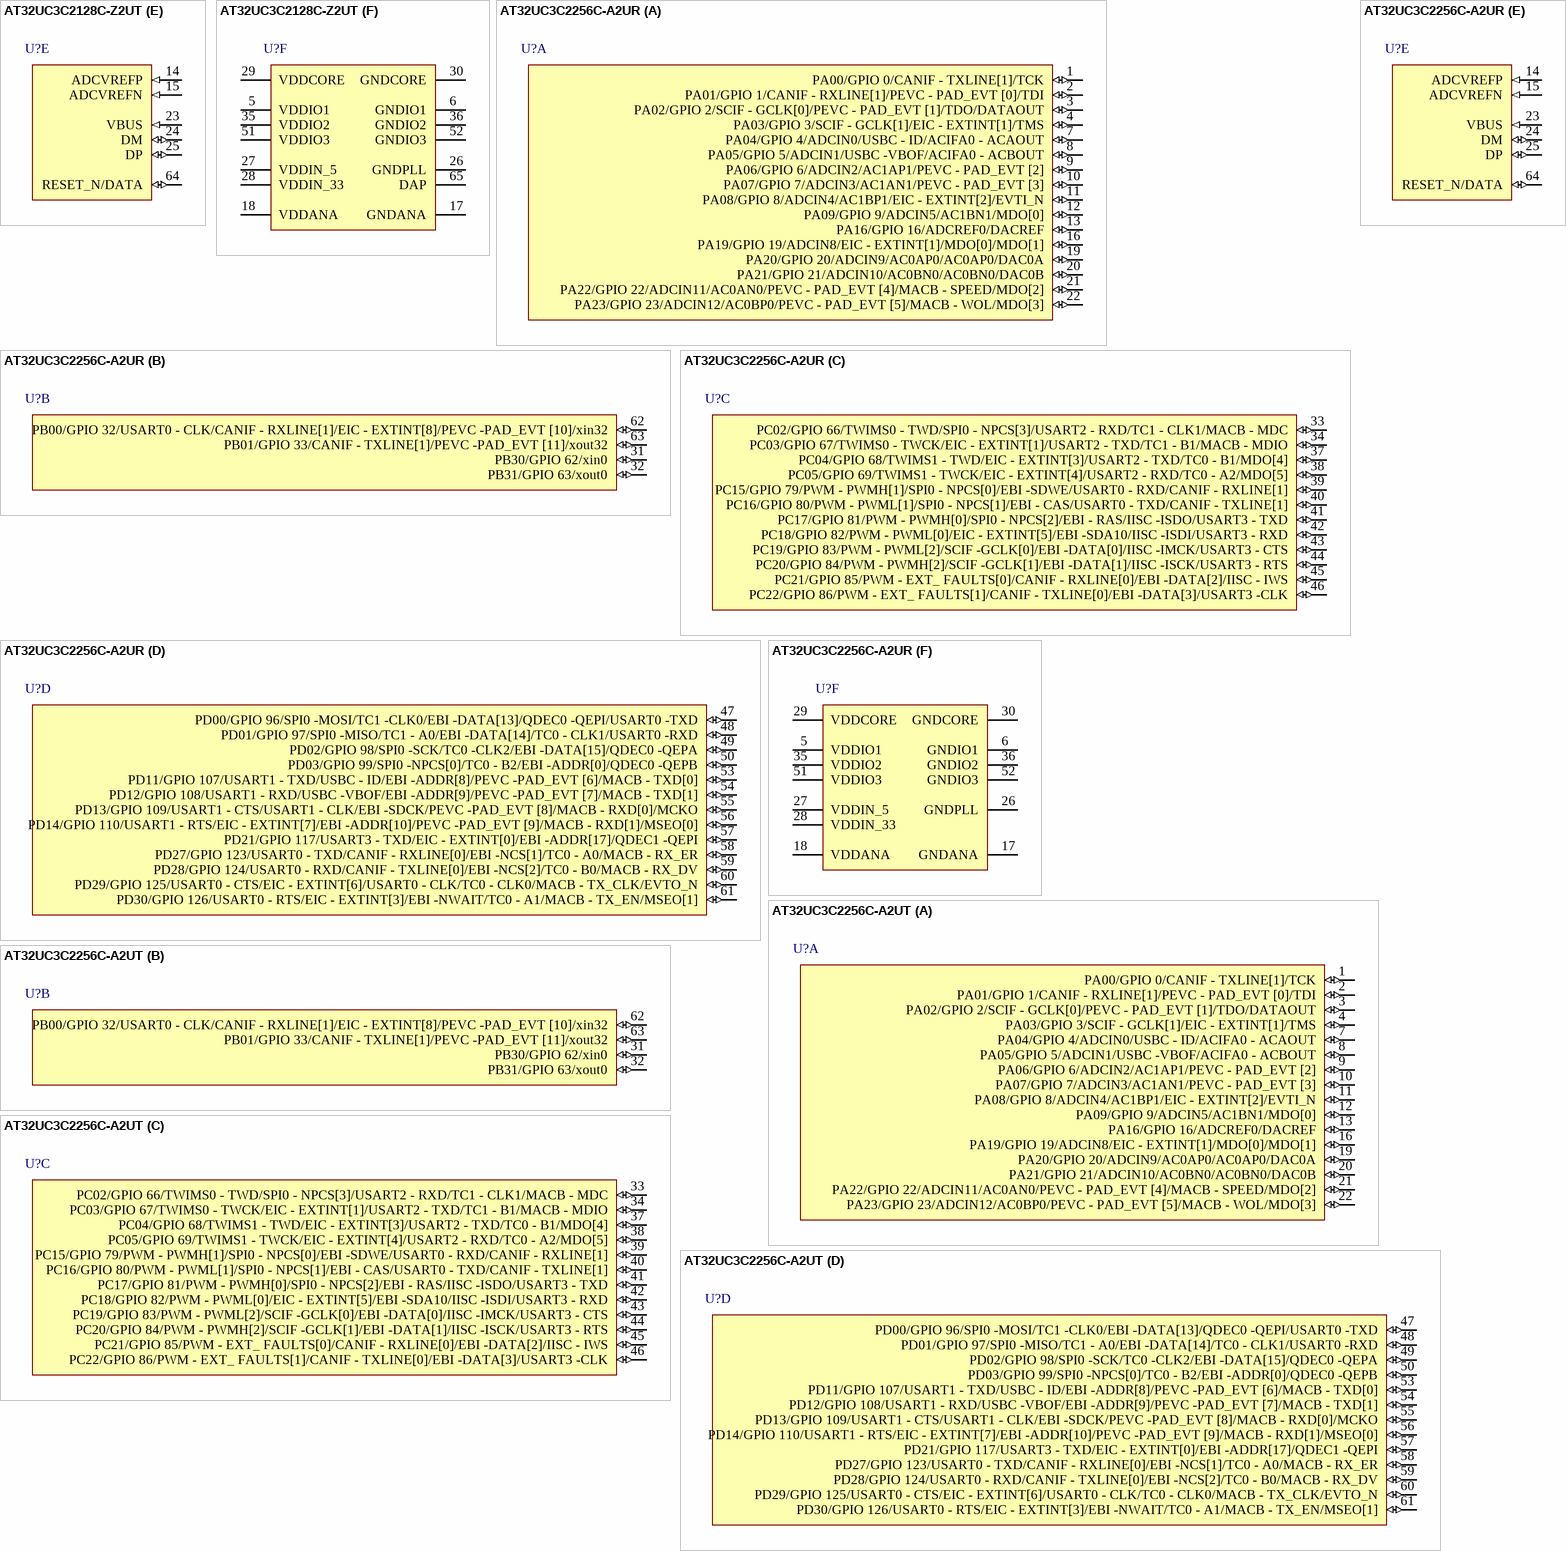
[diagram p89: symbols AT32UC3C2128C-Z2UT to AT32UC3C2256C-A2UT]

## AT32UC3C2128C-Z2UT
designator U?
32-bit AVR UC3 C Series Microcontroller, 128KB Flash, 36KB SRAM, 45 GPIO pins, Industrial Grade, 64- Pin QFN, Tray; DatasheetVersion: revC, Aug-2011; PackageVersion: 2011; PackageReference: Z64-2; PackageDescription: 64-Pin Quad Flat No-Lead, 9 x 9 mm Body, 0.5 mm Pitch, 6 x 6 mm Exposed Pad; Code_JEDEC: MO-220VMMD-3; ComponentLink1Description: Manufacturer URL; ComponentLink1URL: http://www.atmel.com/; ComponentLink2Description: AT32UC3C Datasheet; ComponentLink2URL: http://www.atmel.com/dyn/resources/prod_documents/doc32117.pdf; ComponentLink3Description: AT32UC3C Summary; ComponentLink3URL: http://www.atmel.com/dyn/resources/prod_documents/32117s.pdf
footprint Z64-2_N (QFN, 64-Leads, Body 9x9mm, Pitch 0.5mm, Thermal Pad 6.1x6.1mm, IPC Medium Density)
footprint Z64-2_L (QFN, 64-Leads, Body 9x9mm, Pitch 0.5mm, Thermal Pad 6.1x6.1mm, IPC High Density)
footprint Z64-2_M (QFN, 64-Leads, Body 9x9mm, Pitch 0.5mm, Thermal Pad 6.1x6.1mm, IPC Low Density)
part A pins: 1 PA00/GPIO 0/CANIF - TXLINE[1]/TCK (io), 2 PA01/GPIO 1/CANIF - RXLINE[1]/PEVC - PAD_EVT [0]/TDI (io), 3 PA02/GPIO 2/SCIF - GCLK[0]/PEVC - PAD_EVT [1]/TDO/DATAOUT (io), 4 PA03/GPIO 3/SCIF - GCLK[1]/EIC - EXTINT[1]/TMS (io), 7 PA04/GPIO 4/ADCIN0/USBC - ID/ACIFA0 - ACAOUT (io), 8 PA05/GPIO 5/ADCIN1/USBC -VBOF/ACIFA0 - ACBOUT (io), 9 PA06/GPIO 6/ADCIN2/AC1AP1/PEVC - PAD_EVT [2] (io), 10 PA07/GPIO 7/ADCIN3/AC1AN1/PEVC - PAD_EVT [3] (io), 11 PA08/GPIO 8/ADCIN4/AC1BP1/EIC - EXTINT[2]/EVTI_N (io), 12 PA09/GPIO 9/ADCIN5/AC1BN1/MDO[0] (io), 13 PA16/GPIO 16/ADCREF0/DACREF (io), 16 PA19/GPIO 19/ADCIN8/EIC - EXTINT[1]/MDO[0]/MDO[1] (io), 19 PA20/GPIO 20/ADCIN9/AC0AP0/AC0AP0/DAC0A (io), 20 PA21/GPIO 21/ADCIN10/AC0BN0/AC0BN0/DAC0B (io), 21 PA22/GPIO 22/ADCIN11/AC0AN0/PEVC - PAD_EVT [4]/MACB - SPEED/MDO[2] (io), 22 PA23/GPIO 23/ADCIN12/AC0BP0/PEVC - PAD_EVT [5]/MACB - WOL/MDO[3] (io)
part B pins: 31 PB30/GPIO 62/xin0 (io), 32 PB31/GPIO 63/xout0 (io), 62 PB00/GPIO 32/USART0 - CLK/CANIF - RXLINE[1]/EIC - EXTINT[8]/PEVC -PAD_EVT [10]/xin32 (io), 63 PB01/GPIO 33/CANIF - TXLINE[1]/PEVC -PAD_EVT [11]/xout32 (io)
part C pins: 33 PC02/GPIO 66/TWIMS0 - TWD/SPI0 - NPCS[3]/USART2 - RXD/TC1 - CLK1/MACB - MDC (io), 34 PC03/GPIO 67/TWIMS0 - TWCK/EIC - EXTINT[1]/USART2 - TXD/TC1 - B1/MACB - MDIO (io), 37 PC04/GPIO 68/TWIMS1 - TWD/EIC - EXTINT[3]/USART2 - TXD/TC0 - B1/MDO[4] (io), 38 PC05/GPIO 69/TWIMS1 - TWCK/EIC - EXTINT[4]/USART2 - RXD/TC0 - A2/MDO[5] (io), 39 PC15/GPIO 79/PWM - PWMH[1]/SPI0 - NPCS[0]/EBI -SDWE/USART0 - RXD/CANIF - RXLINE[1] (io), 40 PC16/GPIO 80/PWM - PWML[1]/SPI0 - NPCS[1]/EBI - CAS/USART0 - TXD/CANIF - TXLINE[1] (io), 41 PC17/GPIO 81/PWM - PWMH[0]/SPI0 - NPCS[2]/EBI - RAS/IISC -ISDO/USART3 - TXD (io), 42 PC18/GPIO 82/PWM - PWML[0]/EIC - EXTINT[5]/EBI -SDA10/IISC -ISDI/USART3 - RXD (io), 43 PC19/GPIO 83/PWM - PWML[2]/SCIF -GCLK[0]/EBI -DATA[0]/IISC -IMCK/USART3 - CTS (io), 44 PC20/GPIO 84/PWM - PWMH[2]/SCIF -GCLK[1]/EBI -DATA[1]/IISC -ISCK/USART3 - RTS (io), 45 PC21/GPIO 85/PWM - EXT_ FAULTS[0]/CANIF - RXLINE[0]/EBI -DATA[2]/IISC - IWS (io), 46 PC22/GPIO 86/PWM - EXT_ FAULTS[1]/CANIF - TXLINE[0]/EBI -DATA[3]/USART3 -CLK (io)
part D pins: 47 PD00/GPIO 96/SPI0 -MOSI/TC1 -CLK0/EBI -DATA[13]/QDEC0 -QEPI/USART0 -TXD (io), 48 PD01/GPIO 97/SPI0 -MISO/TC1 - A0/EBI -DATA[14]/TC0 - CLK1/USART0 -RXD (io), 49 PD02/GPIO 98/SPI0 -SCK/TC0 -CLK2/EBI -DATA[15]/QDEC0 -QEPA (io), 50 PD03/GPIO 99/SPI0 -NPCS[0]/TC0 - B2/EBI -ADDR[0]/QDEC0 -QEPB (io), 53 PD11/GPIO 107/USART1 - TXD/USBC - ID/EBI -ADDR[8]/PEVC -PAD_EVT [6]/MACB - TXD[0] (io), 54 PD12/GPIO 108/USART1 - RXD/USBC -VBOF/EBI -ADDR[9]/PEVC -PAD_EVT [7]/MACB - TXD[1] (io), 55 PD13/GPIO 109/USART1 - CTS/USART1 - CLK/EBI -SDCK/PEVC -PAD_EVT [8]/MACB - RXD[0]/MCKO (io), 56 PD14/GPIO 110/USART1 - RTS/EIC - EXTINT[7]/EBI -ADDR[10]/PEVC -PAD_EVT [9]/MACB - RXD[1]/MSEO[0] (io), 57 PD21/GPIO 117/USART3 - TXD/EIC - EXTINT[0]/EBI -ADDR[17]/QDEC1 -QEPI (io), 58 PD27/GPIO 123/USART0 - TXD/CANIF - RXLINE[0]/EBI -NCS[1]/TC0 - A0/MACB - RX_ER (io), 59 PD28/GPIO 124/USART0 - RXD/CANIF - TXLINE[0]/EBI -NCS[2]/TC0 - B0/MACB - RX_DV (io), 60 PD29/GPIO 125/USART0 - CTS/EIC - EXTINT[6]/USART0 - CLK/TC0 - CLK0/MACB - TX_CLK/EVTO_N (io), 61 PD30/GPIO 126/USART0 - RTS/EIC - EXTINT[3]/EBI -NWAIT/TC0 - A1/MACB - TX_EN/MSEO[1] (io)
part E pins: 14 ADCVREFP (in), 15 ADCVREFN (in), 23 VBUS (in), 24 DM (io), 25 DP (io), 64 RESET_N/DATA (io)
part F pins: 5 VDDIO1 (power), 6 GNDIO1 (power), 17 GNDANA (power), 18 VDDANA (power), 26 GNDPLL (power), 27 VDDIN_5 (power), 28 VDDIN_33 (power), 29 VDDCORE (power), 30 GNDCORE (power), 35 VDDIO2 (power), 36 GNDIO2 (power), 51 VDDIO3 (power), 52 GNDIO3 (power), 65 DAP (power)